# Altium schematic symbol library Integrated Circuits.SchLib: 178 symbols (part 1 of 3)
Pins are listed as number, name and electrical type; pins without a type are passive.

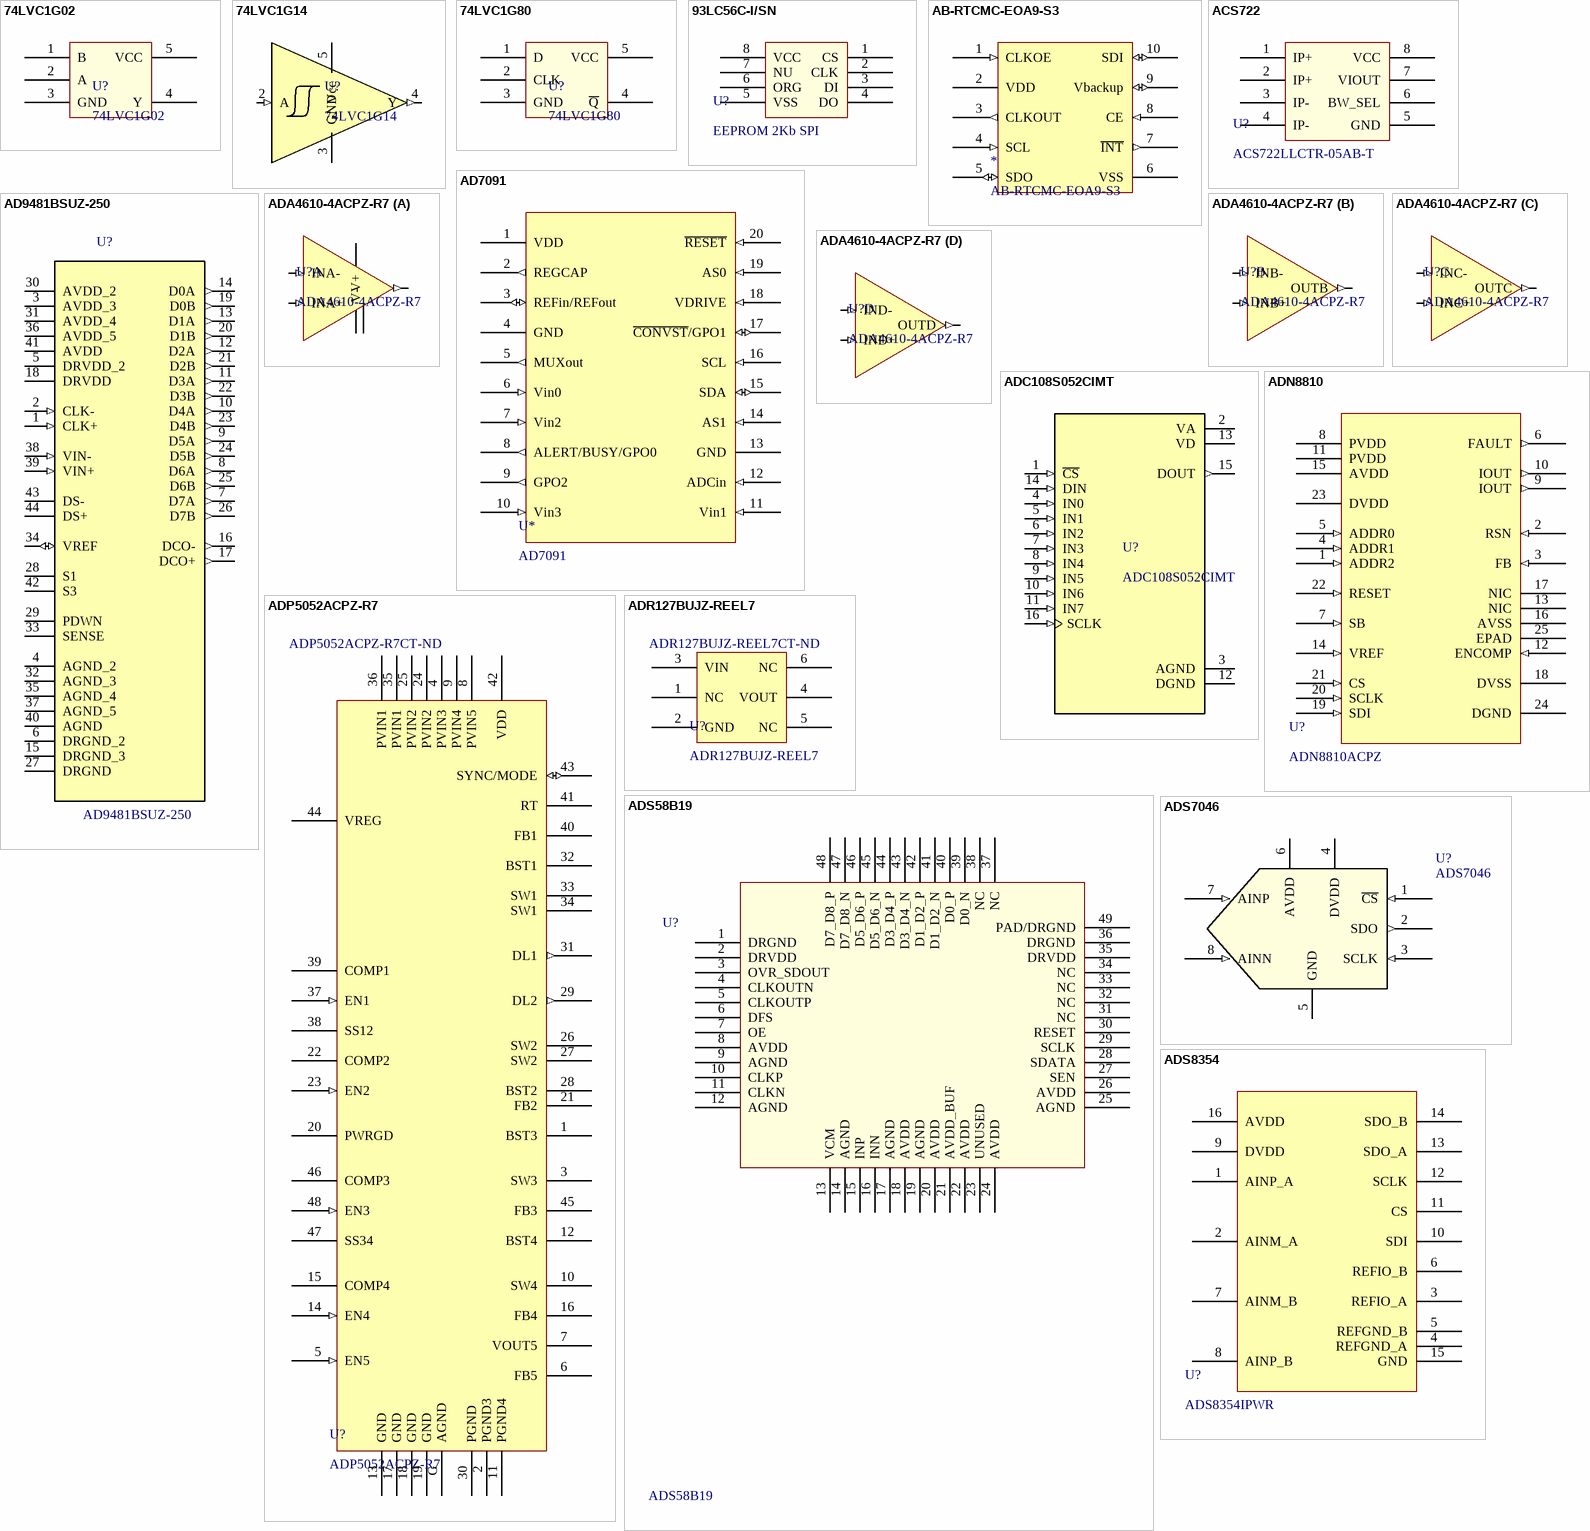
[diagram p0: symbols 74LVC1G02 to ADS8354]

## 74LVC1G02
designator U?
Single 2 input NOR Gate; Supplier 1: Digi-Key; Supplier 2: Mouser; Supplier 3: LCSC; Supplier Part Number 1: 1727-6062-1-ND; Supplier Part Number 2: 771-LVC1G02GW125; Supplier Part Number 3: C353856
footprint SOT353-1 (0.65mm Pitch 5 Pin)
pins: 1 B, 2 A, 3 GND, 4 Y, 5 VCC

## 74LVC1G14
designator U?
Schmitt trigger buffer, inverting; Supplier 1: Digi-Key; Supplier Part Number 1: 296-11607-1-ND
footprint SOT25 (SOT23, 5-Leads, Body 2.95x3.05mm, Pitch 0.95mm, IPC Medium Density)
pins: 2 A (in), 3 GND (power), 4 Y (out), 5 Vcc (power)

## 74LVC1G80
designator U?
Single D-type flip-flop; positive-edge trigger; Supplier 1: Digi-Key; Supplier 2: Mouser; Supplier 3: LCSC; Supplier Part Number 2: 771-LVC1G80GW125; Supplier Part Number 1: 1727-6081-1-ND; Supplier Part Number 3: C353857
footprint SOT353-1 (0.65mm Pitch 5 Pin)
pins: 1 D, 2 CLK, 3 GND, 4 ~{Q}, 5 VCC

## 93LC56C-I/SN
designator U?, comment EEPROM 2Kb SPI
EEPROM Memory IC 2Kb (256 x 8, 128 x 16) SPI 3MHz 8-SOIC; Supplier 1: Digi-Key; Supplier Part Number 1: 93LC56C-I/SN-ND
footprint SOIC127P600X175-8N (SOIC, 8-Leads, Body 4.90x3.90mm, Pitch 1.27mm, IPC Medium Density)
pins: 1 CS, 2 CLK, 3 DI, 4 DO, 5 VSS, 6 ORG, 7 NU, 8 VCC

## AB-RTCMC-EOA9-S3
designator *
IC RTC TEMP COMPENSATED W/ SPI; Supplier 1: Mouser; Supplier Part Number 1: 815-ABMC-327EOA9S3DB
footprint SON80P250X90-10N (SON, 10-Leads, Body 3.70x2.50mm, Pitch 0.80mm, IPC Medium Density)
pins: 1 CLKOE (in), 2 VDD (power), 3 CLKOUT (out), 4 SCL (in), 5 SDO (io), 6 VSS (power), 7 ~{INT} (out), 8 CE (in), 9 Vbackup (io), 10 SDI (io)

## ACS722
designator U?, comment ACS722LLCTR-05AB-T
Current Sensor 5A 1 Channel Hall Effect, Open Loop Bidirectional 8-SOIC (0.154", 3.90mm Width); Supplier 1: Digi-Key; Supplier Part Number 1: 620-1634-1-ND; Supplier 3: LCSC; Supplier Part Number 3: C116613
footprint SOIC127P600X175-8N (SOIC, 8-Leads, Body 4.90x3.90mm, Pitch 1.27mm, IPC Medium Density)
pins: 1 IP+, 2 IP+, 3 IP-, 4 IP-, 5 GND, 6 BW_SEL, 7 VIOUT, 8 VCC

## AD7091
designator U*
4-Channel 12-bit ADC, I2C; Supplier 1: Digi-Key; Supplier Part Number 1: AD7091R-5BCPZ-ND
footprint TSOP65P640X120-20N (TSOP, 20-Leads, Body 6.50x4.40mm, Pitch 0.65mm, IPC Medium Density)
pins: 1 VDD (power), 2 REGCAP (out), 3 REFin/REFout (io), 4 GND (power), 5 MUXout (out), 6 Vin0 (in), 7 Vin2 (in), 8 ALERT/BUSY/GPO0 (out), 9 GPO2 (out), 10 Vin3 (in), 11 Vin1 (in), 12 ADCin (in), 13 GND (power), 14 AS1 (in), 15 SDA (io), 16 SCL (in), 17 ~{CONVST}/GPO1 (io), 18 VDRIVE (in), 19 AS0 (in), 20 ~{RESET} (in)

## AD9481BSUZ-250
designator U?
Single ADC Pipelined 250Msps 8-bit Parallel/LVDS 44-Pin TQFP Tray; VENDOR: DigiKey; MANF: Analog Devices Inc.; VENDOR_PN: AD9481BSUZ-250-ND; MANF_PN: AD9481BSUZ-250
footprint QFP80P1200X1200X120-44N
pins: 1 CLK+ (in), 2 CLK- (in), 3 AVDD_3 (power), 4 AGND_2, 5 DRVDD_2 (power), 6 DRGND_2, 7 D7A (out), 8 D6A (out), 9 D5A (out), 10 D4A (out), 11 D3A (out), 12 D2A (out), 13 D1A (out), 14 D0A (out), 15 DRGND_3, 16 DCO- (out), 17 DCO+ (out), 18 DRVDD (power), 19 D0B (out), 20 D1B (out), 21 D2B (out), 22 D3B (out), 23 D4B (out), 24 D5B (out), 25 D6B (out), 26 D7B (out), 27 DRGND, 28 S1, 29 PDWN, 30 AVDD_2 (power), 31 AVDD_4 (power), 32 AGND_3, 33 SENSE, 34 VREF (io), 35 AGND_4, 36 AVDD_5 (power), 37 AGND_5, 38 VIN- (in), 39 VIN+ (in), 40 AGND, 41 AVDD (power), 42 S3, 43 DS-, 44 DS+

## ADA4610-4ACPZ-R7
designator U?
IC OPAMP JFET 4 CIRCUIT 16LFCSP; Supplier 1: Digi-Key; Supplier 2: Mouser; Supplier Part Number 1: ADA4610-4ACPZ-R7CT-ND; Supplier Part Number 2: 584-ADA4610-4ACPZ-R7; Supplier Part Number 3: C654151; Supplier 3: LCSC
footprint LFCSP16 4x4x0.75mm (16-Lead Lead Frame Chip Scale Package)
part A pins: 1 INA- (in), 2 INA+ (in), 3 V+ (power), 10 V- (power), 15 OUTA (out), 17 PAD (power)
part B pins: 4 INB+ (in), 5 INB- (in), 6 OUTB (out)
part C pins: 7 OUTC (out), 8 INC- (in), 9 INC+ (in)
part D pins: 11 IND+ (in), 12 IND- (in), 14 OUTD (out)

## ADC108S052CIMT
designator U?
10 Bit Analog to Digital Converter 8 Input 1 SAR 16-TSSOP; Supplier 1: Digi-Key; Supplier 2: Mouser; Supplier Part Number 1: ADC108S052CIMT/NOPB-ND; Supplier Part Number 2: 926-AD108S052CIMTNPB
footprint SOP65P640X120-16N
pins: 1 ~{CS} (in), 2 VA (power), 3 AGND (power), 4 IN0 (in), 5 IN1 (in), 6 IN2 (in), 7 IN3 (in), 8 IN4 (in), 9 IN5 (in), 10 IN6 (in), 11 IN7 (in), 12 DGND (power), 13 VD (power), 14 DIN (in), 15 DOUT (out), 16 SCLK (in)

## ADN8810
designator U?, comment ADN8810ACPZ
IC CURRENT SOURCE 12BIT 24LFCSP; Supplier 1: Digi-Key; Supplier Part Number 1: ADN8810ACPZ-ND
footprint CP-24-10 (QFN, 24-Leads, Body 4.00x4.00mm, Pitch 0.50mm, Thermal Pad 2.10x2.10mm, IPC High Density)
pins: 1 ADDR2 (in), 2 RSN (in), 3 FB (in), 4 ADDR1 (in), 5 ADDR0 (in), 6 FAULT (out), 7 SB (in), 8 PVDD (power), 9 IOUT (out), 10 IOUT (out), 11 PVDD (power), 12 ENCOMP (in), 13 NIC, 14 VREF (in), 15 AVDD (power), 16 AVSS, 17 NIC, 18 DVSS, 19 SDI (in), 20 SCLK (in), 21 CS (in), 22 RESET (in), 23 DVDD (power), 24 DGND, 25 EPAD

## ADP5052ACPZ-R7
designator U?  Supplier Part Number 1: ADP5052ACPZ-R7CT-ND
IC REG 5OUT BCK/LINEAR 48LFCSP; Manufacturer: Analog Devices Inc.; Supplier: Digikey; Supplier Part Number: ADP5052ACPZ-R7CT-ND; Manufacturer Part Number: ADP5052ACPZ-R7; Last Modified By: *; Last Modified Date: *; Supplier 1: Digi-Key
footprint QFN50P700X700X80_HS-49N (QFN, 48-Leads, Body 7.00x7.00mm, Pitch 0.50mm, Thermal Pad 5.60x5.60mm, IPC Medium Density)
pins: 1 BST3, 2 PGND3, 3 SW3, 4 PVIN3, 5 EN5 (in), 6 FB5, 7 VOUT5, 8 PVIN5, 9 PVIN4, 10 SW4, 11 PGND4, 12 BST4, 13 GND, 14 EN4 (in), 15 COMP4, 16 FB4, 17 GND, 18 GND, 19 GND, 20 PWRGD, 21 FB2, 22 COMP2, 23 EN2 (in), 24 PVIN2, 25 PVIN2, 26 SW2, 27 SW2, 28 BST2, 29 DL2 (out), 30 PGND, 31 DL1 (out), 32 BST1, 33 SW1, 34 SW1, 35 PVIN1, 36 PVIN1, 37 EN1 (in), 38 SS12, 39 COMP1, 40 FB1, 41 RT, 42 VDD, 43 SYNC/MODE (io), 44 VREG, 45 FB3, 46 COMP3, 47 SS34, 48 EN3 (in), G AGND

## ADR127BUJZ-REEL7
designator U?  Supplier Part Number 1: ADR127BUJZ-REEL7CT-ND
IC VREF SERIES 1.25V TSOT-6; Manufacturer: Analog Devices Inc.; Supplier: Digi-Key; Supplier Part Number: ADR127BUJZ-REEL7CT-ND; Manufacturer Part Number: ADR127BUJZ-REEL7; Last Modified By: *; Last Modified Date: *; Supplier 1: Digi-Key
footprint SOT95P280X90-6N (SOT23, 6-Leads, Body 2.90x2.80mm, Pitch 0.95mm, IPC Medium Density)
pins: 1 NC, 2 GND, 3 VIN, 4 VOUT, 5 NC, 6 NC

## ADS58B19
designator U?
Single ADC Pipelined 250Msps 9-bit Parallel/LVDS 48-Pin VQFN; Supplier 1: Digi-Key; Supplier 2: Mouser; Supplier Part Number 1: 296-28296-1-ND; Supplier Part Number 2: 595-ADS58B19IRGZT
footprint VQFN48 (VQFN, 48-Leads, 7.00x7.00mm, Pitch 0.50mm)
pins: 1 DRGND, 2 DRVDD, 3 OVR_SDOUT, 4 CLKOUTN, 5 CLKOUTP, 6 DFS, 7 OE, 8 AVDD, 9 AGND, 10 CLKP, 11 CLKN, 12 AGND, 13 VCM, 14 AGND, 15 INP, 16 INN, 17 AGND, 18 AVDD, 19 AGND, 20 AVDD, 21 AVDD_BUF, 22 AVDD, 23 UNUSED, 24 AVDD, 25 AGND, 26 AVDD, 27 SEN, 28 SDATA, 29 SCLK, 30 RESET, 31 NC, 32 NC, 33 NC, 34 NC, 35 DRVDD, 36 DRGND, 37 NC, 38 NC, 39 D0_N, 40 D0_P, 41 D1_D2_N, 42 D1_D2_P, 43 D3_D4_N, 44 D3_D4_P, 45 D5_D6_N, 46 D5_D6_P, 47 D7_D8_N, 48 D7_D8_P, 49 PAD/DRGND

## ADS7046
designator U?
12 Bit Analog to Digital Converter 1 Input 3MSPS SAR 8-X2QFN (1.5x1.5); Supplier 1: Digi-Key; Supplier 2: Mouser; Supplier Part Number 1: 296-48818-1-ND; Supplier Part Number 2: 595-ADS7046IRUGR
footprint X2QFN-8 (1.5x1.5mm ADS7046)
pins: 1 ~{CS} (in), 2 SDO (out), 3 SCLK (in), 4 DVDD (power), 5 GND (power), 6 AVDD (power), 7 AINP (in), 8 AINN (in)

## ADS8354
designator U?, comment ADS8354IPWR
DUAL CHANNEL 1MSPS SS ATOD; Supplier 1: Digi-Key; Supplier Part Number 1: 296-39873-1-ND
footprint PW (R-PDSO-G16)
pins: 1 AINP_A, 2 AINM_A, 3 REFIO_A, 4 REFGND_A, 5 REFGND_B, 6 REFIO_B, 7 AINM_B, 8 AINP_B, 9 DVDD, 10 SDI, 11 CS, 12 SCLK, 13 SDO_A, 14 SDO_B, 15 GND, 16 AVDD

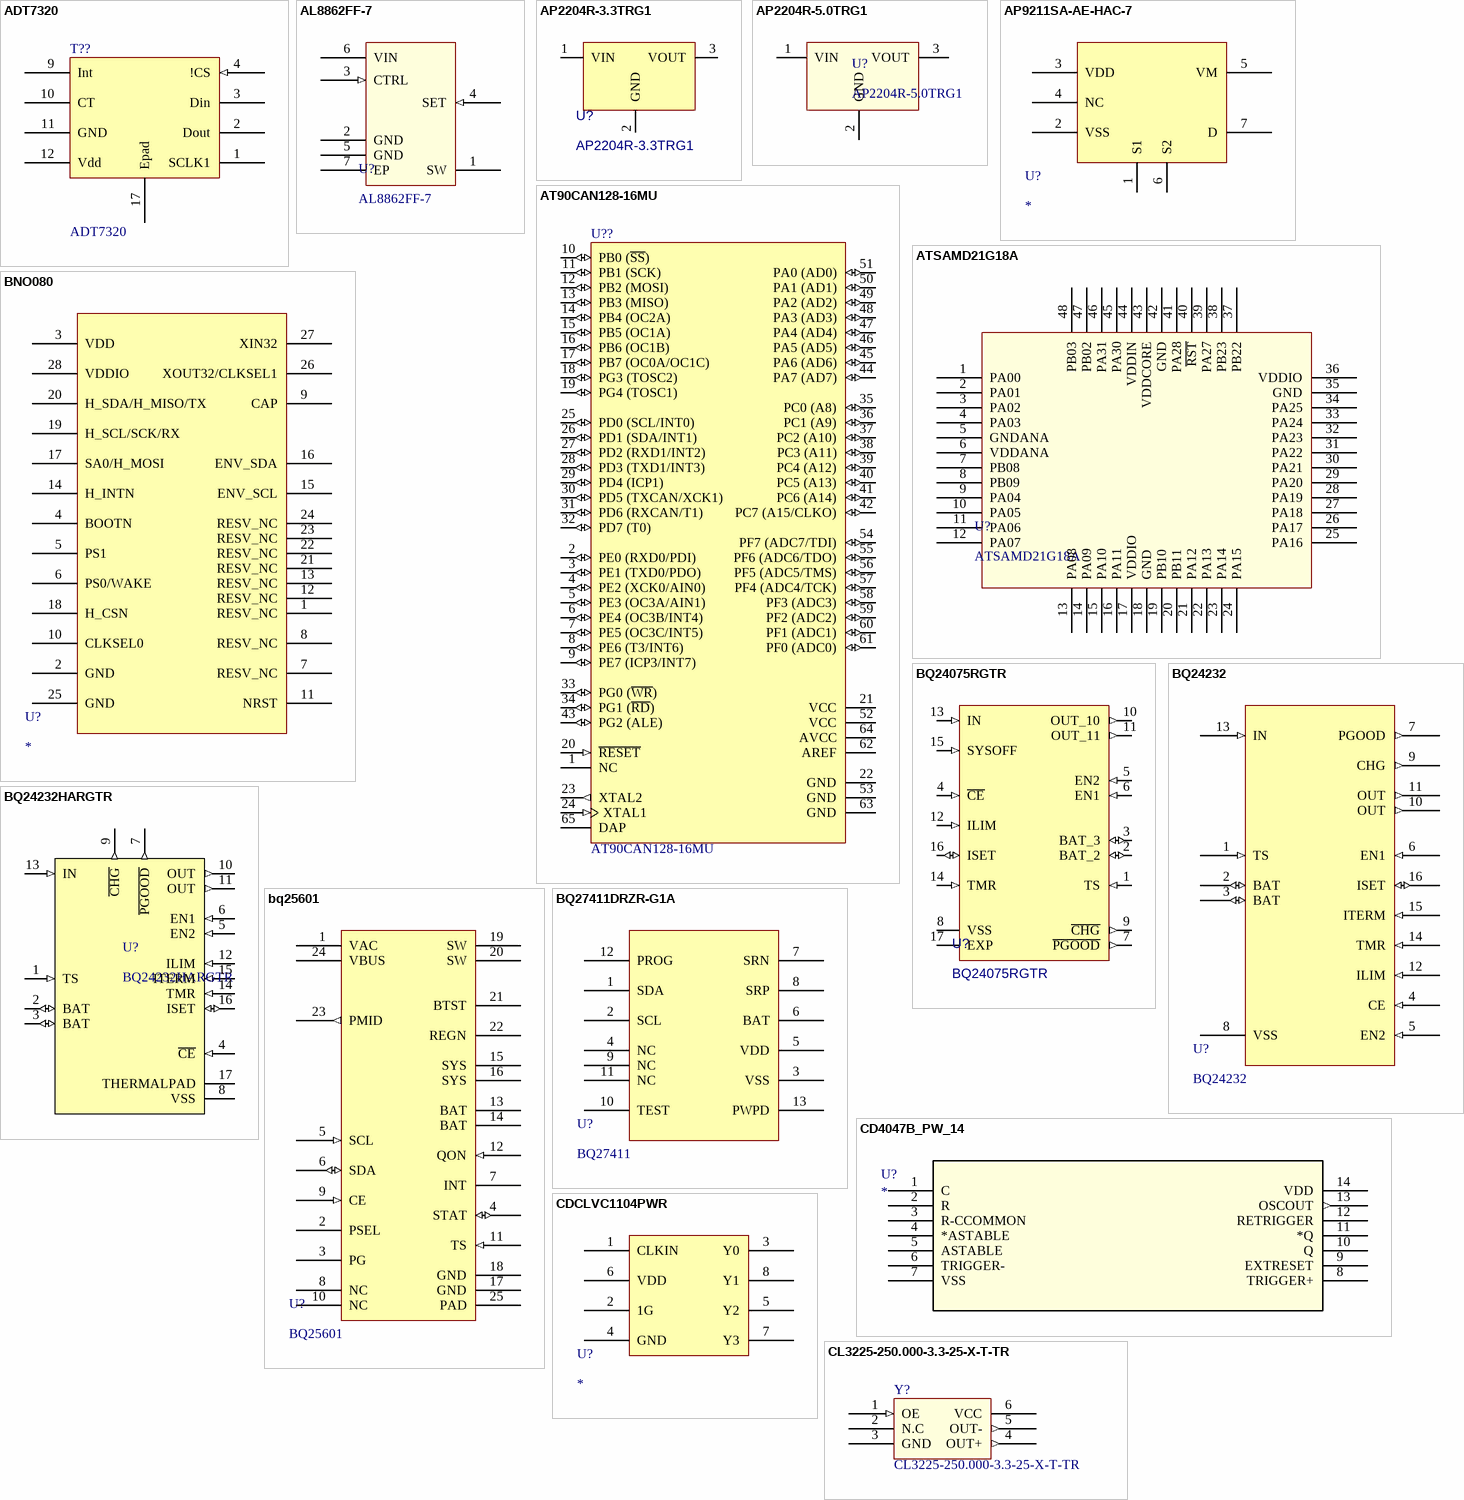
[diagram p1: symbols ADT7320 to CL3225-250.000-3.3-25-X-T-TR]

## ADT7320
designator T??
SPI 16 bit digital temp sensor; Supplier 1: Arrow; Supplier Part Number 1: 49674583S8738366N2771
footprint LFCSP16
pins: 1 SCLK1, 2 Dout, 3 Din, 4 !CS (in), 5 NC hidden, 6 NC hidden, 7 NC hidden, 8 NC hidden, 9 Int, 10 CT, 11 GND (power), 12 Vdd (power), 13 NC hidden, 14 NC hidden, 15 NC hidden, 16 NC hidden, 17 Epad

## AL8862FF-7
designator U?
LED Driver IC 1 Output DC DC Regulator Step-Down (Buck) Analog, PWM Dimming 1A 6-DFN (3x3); Supplier 1: Digi-Key; Supplier 2: Mouser; Supplier Part Number 1: 31-AL8862FF-7CT-ND; Supplier Part Number 2: 621-AL8862FF-7
footprint U-DFN3030-6 (Diodes Inc DFN3030 6 Pin EP)
pins: 1 SW, 2 GND (power), 3 CTRL (in), 4 SET (in), 5 GND (power), 6 VIN (power), 7 EP (power)

## AP2204R-3.3TRG1
designator U?
Fixed 24V 3.3V 150mA SOT-89(SOT-89-3) Low Dropout Regulators(LDO); Supplier 1: Digi-Key; Supplier 2: Mouser; Supplier 3: LCSC; Supplier Part Number 1: AP2204R-3.3TRG1DICT-ND; Supplier Part Number 2: 621-AP2204R-3.3TRG1; Supplier Part Number 3: C156303
footprint SOT-89 (SOT-89 for AP2204R)
pins: 1 VIN, 2 GND, 3 VOUT

## AP2204R-5.0TRG1
designator U?
Fixed 24V 5.0V 150mA SOT-89(SOT-89-3) Low Dropout Regulators(LDO); Supplier 1: Digi-Key; Supplier 2: Mouser; Supplier Part Number 1: AP2204R-5.0TRG1DICT-ND; Supplier 3: LCSC; Supplier Part Number 2: 621-AP2204R-5.0TRG1; Supplier Part Number 3: C156388
footprint SOT-89 (SOT-89 for AP2204R)
pins: 1 VIN, 2 GND, 3 VOUT

## AP9211SA-AE-HAC-7
designator U?
IC BATT PROTECTION LI-ION 6UDFN; Supplier 1: Digi-Key; Supplier Part Number 1: AP9211SA-AE-HAC-7DICT-ND
footprint U-DFN2030-6
pins: 1 S1, 2 VSS, 3 VDD, 4 NC, 5 VM, 6 S2, 7 D

## AT90CAN128-16MU
designator U??
8-bit Automotive AVR Microcontroller, 128KB Flash and CAN Controller, 53 GPIO pins, Automotive Grade (-40°to +125°C), 64-Pin VQFN; DatasheetVersion: revC, Apr-2008; PackageVersion: 2011; PackageReference: Z64-2; PackageDescription: 64-Pin Quad Flat No-Lead, 9 x 9 mm Body, 0.5 mm Pitch, 6 x 6 mm Exposed Pad; Code_JEDEC: MO-220VMMD-3; ComponentLink1Description: Manufacturer URL; ComponentLink1URL: http://www.atmel.com/; ComponentLink2Description: AT90CAN32/64/128 Datasheet; ComponentLink2URL: http://www.atmel.com/dyn/resources/prod_documents/doc7682.pdf; ComponentLink3Description: AT90CAN32/64/128 Summary; ComponentLink3URL: http://www.atmel.com/dyn/resources/prod_documents/7682S.pdf; Supplier 1: Digi-Key; Supplier Part Number 1: AT90CAN128-16MU-ND
footprint QFN64
pins: 1 NC, 2 PE0 (RXD0/PDI) (io), 3 PE1 (TXD0/PDO) (io), 4 PE2 (XCK0/AIN0) (io), 5 PE3 (OC3A/AIN1) (io), 6 PE4 (OC3B/INT4) (io), 7 PE5 (OC3C/INT5) (io), 8 PE6 (T3/INT6) (io), 9 PE7 (ICP3/INT7) (io), 10 PB0 (~{SS}) (io), 11 PB1 (SCK) (io), 12 PB2 (MOSI) (io), 13 PB3 (MISO) (io), 14 PB4 (OC2A) (io), 15 PB5 (OC1A) (io), 16 PB6 (OC1B) (io), 17 PB7 (OC0A/OC1C) (io), 18 PG3 (TOSC2) (io), 19 PG4 (TOSC1) (io), 20 ~{RESET} (in), 21 VCC (power), 22 GND (power), 23 XTAL2 (out), 24 XTAL1 (in), 25 PD0 (SCL/INT0) (io), 26 PD1 (SDA/INT1) (io), 27 PD2 (RXD1/INT2) (io), 28 PD3 (TXD1/INT3) (io), 29 PD4 (ICP1) (io), 30 PD5 (TXCAN/XCK1) (io), 31 PD6 (RXCAN/T1) (io), 32 PD7 (T0) (io), 33 PG0 (~{WR}) (io), 34 PG1 (~{RD}) (io), 35 PC0 (A8) (io), 36 PC1 (A9) (io), 37 PC2 (A10) (io), 38 PC3 (A11) (io), 39 PC4 (A12) (io), 40 PC5 (A13) (io), 41 PC6 (A14) (io), 42 PC7 (A15/CLKO) (io), 43 PG2 (ALE) (io), 44 PA7 (AD7) (io), 45 PA6 (AD6) (io), 46 PA5 (AD5) (io), 47 PA4 (AD4) (io), 48 PA3 (AD3) (io), 49 PA2 (AD2) (io), 50 PA1 (AD1) (io), 51 PA0 (AD0) (io), 52 VCC (power), 53 GND (power), 54 PF7 (ADC7/TDI) (io), 55 PF6 (ADC6/TDO) (io), 56 PF5 (ADC5/TMS) (io), 57 PF4 (ADC4/TCK) (io), 58 PF3 (ADC3) (io), 59 PF2 (ADC2) (io), 60 PF1 (ADC1) (io), 61 PF0 (ADC0) (io), 62 AREF (power), 63 GND (power), 64 AVCC (power), 65 DAP (power)

## ATSAMD21G18A
designator U?
ARM® Cortex®-M0+ series Microcontroller IC 32-Bit 48MHz 256KB (256K x 8) FLASH 48-TQFP (7x7); Supplier 1: Digi-Key; Supplier 2: Mouser; Supplier 3: LCSC; Supplier Part Number 1: ATSAMD21G18A-AU-ND; Supplier Part Number 2: 556-ATSAMD21G18A-AU; Supplier Part Number 3: C78624
footprint LQFP48 (TSQFP, 48-Leads, Body 7.00x8.00mm, Pitch 0.50mm, IPC Medium Density)
pins: 1 PA00, 2 PA01, 3 PA02, 4 PA03, 5 GNDANA, 6 VDDANA, 7 PB08, 8 PB09, 9 PA04, 10 PA05, 11 PA06, 12 PA07, 13 PA08, 14 PA09, 15 PA10, 16 PA11, 17 VDDIO, 18 GND, 19 PB10, 20 PB11, 21 PA12, 22 PA13, 23 PA14, 24 PA15, 25 PA16, 26 PA17, 27 PA18, 28 PA19, 29 PA20, 30 PA21, 31 PA22, 32 PA23, 33 PA24, 34 PA25, 35 GND, 36 VDDIO, 37 PB22, 38 PB23, 39 PA27, 40 ~{RST}, 41 PA28, 42 GND, 43 VDDCORE, 44 VDDIN, 45 PA30, 46 PA31, 47 PB02, 48 PB03

## BNO080
designator U?
IMU ACCEL/GYRO/MAG I2C 32BIT; Supplier 1: Digi-Key; Supplier Part Number 1: 1888-1000-1-ND
footprint PQFN50P520X380X180-28M (PQFN, 28-Leads, Body 5.20x3.80mm, Pitch 0.50mm, IPC Low Density)
pins: 1 RESV_NC, 2 GND, 3 VDD, 4 BOOTN, 5 PS1, 6 PS0/WAKE, 7 RESV_NC, 8 RESV_NC, 9 CAP, 10 CLKSEL0, 11 NRST, 12 RESV_NC, 13 RESV_NC, 14 H_INTN, 15 ENV_SCL, 16 ENV_SDA, 17 SA0/H_MOSI, 18 H_CSN, 19 H_SCL/SCK/RX, 20 H_SDA/H_MISO/TX, 21 RESV_NC, 22 RESV_NC, 23 RESV_NC, 24 RESV_NC, 25 GND, 26 XOUT32/CLKSEL1, 27 XIN32, 28 VDDIO

## BQ24075RGTR
designator U?
Standalone 1-cell 1.5-A linear charger, Power Path, 4.2-V VBAT and 5.5-V VOUT 16-VQFN -40 to 85; Supplier 1: Digikey; Supplier 2: Mouser; Supplier Part Number 1: 296-38874-1-ND; Supplier Part Number 2: 595-BQ24075RGTR
footprint QFN50P300X300X100-17N
pins: 1 TS (in), 2 BAT_2 (io), 3 BAT_3 (io), 4 ~{CE} (in), 5 EN2 (in), 6 EN1 (in), 7 ~{PGOOD} (out), 8 VSS (power), 9 ~{CHG} (out), 10 OUT_10 (out), 11 OUT_11 (out), 12 ILIM (in), 13 IN (in), 14 TMR (in), 15 SYSOFF (in), 16 ISET (io), 17 EXP (power)

## BQ24232
designator U?
IC LI-ION CHARGE PWR MGMT 16QFN; Supplier 1: Digi-Key; Supplier Part Number 1: 296-41207-1-ND
footprint RGT0016C (QFN, 16-Leads, Body 3.00x3.00mm, Pitch 0.50mm, Thermal Pad 1.68x1.68mm, IPC High Density)
pins: 1 TS (in), 2 BAT (io), 3 BAT (io), 4 CE (in), 5 EN2 (in), 6 EN1 (in), 7 PGOOD (out), 8 VSS, 9 CHG (out), 10 OUT (out), 11 OUT (out), 12 ILIM (in), 13 IN (in), 14 TMR (in), 15 ITERM (in), 16 ISET (io)

## BQ24232HARGTR
designator U?
USB Friendly 0.5A Li-ion charger with power-Path, 10.5V OVP 16-VQFN -5 to 125; MF: Texas Instruments; Package: VQFN-16 Texas Instruments; MP: BQ24232HARGTR; Supplier 1: Digi-Key; Supplier 2: Mouser; Supplier Part Number 1: 296-49554-1-ND; Supplier Part Number 2: 595-BQ24232HARGTR
footprint QFN50P300X300X100-17N
pins: 1 TS (in), 2 BAT (io), 3 BAT (io), 4 ~{CE} (in), 5 EN2 (in), 6 EN1 (in), 7 ~{PGOOD} (out), 8 VSS (power), 9 ~{CHG} (out), 10 OUT (out), 11 OUT (out), 12 ILIM (in), 13 IN (in), 14 TMR (in), 15 ITERM (in), 16 ISET (io), 17 THERMALPAD (power)

## bq25601
designator U?, comment BQ25601
I2C CONTROLLED SINGLE CELL 3-A B; Supplier 1: Digi-Key; Operating Temperature: -40°C ~ 85°C; Package / Case: 24-WFQFN Exposed Pad; Supplier Part Number 1: 296-47384-1-ND
footprint RTW (S-PWQFN-N24) (QFN, 24-Leads, Body 4.00x4.00mm, Pitch 0.50mm, Thermal Pad 2.70x2.70mm, IPC Medium Density)
pins: 1 VAC "Charge input voltage sense. This pin must be connected to VBUS pin.", 2 PSEL "Power source selection input. Set 500 mA input current limit by pulling this pin high and set 2.4A input current limit", 3 PG, 4 STAT (io), 5 SCL (in), 6 SDA (io), 7 INT "Open-drain interrupt Output. Connect the INT to a logic rail through 10-kΩ resistor. The INT pin sends an active", 8 NC, 9 CE (in) "Charge enable pin. When this pin is driven low, battery charging is enabled.", 10 NC, 11 TS (in) "Temperature qualification voltage input to support JEITA profile. Connect a negative temperature coefficient", 12 QON (in) "BATFET enable/reset control input. When BATFET is in ship mode, a logic low of tSHIPMODE duration turns on", 13 BAT "Battery connection point to the positive terminal of the battery pack. The internal BATFET and current sensing is", 14 BAT "Battery connection point to the positive terminal of the battery pack. The internal BATFET and current sensing is", 15 SYS "Converter output connection point. The internal current sensing network is connected between SYS and BAT. Connect a 20 μF capacitor close to the SYS pin.", 16 SYS "Converter output connection point. The internal current sensing network is connected between SYS and BAT. Connect a 20 μF capacitor close to the SYS pin.", 17 GND, 18 GND, 19 SW "Switching node output. Connected to output inductor. Connect the 0.047-μF bootstrap capacitor from SW to BTST.", 20 SW "Switching node output. Connected to output inductor. Connect the 0.047-μF bootstrap capacitor from SW to BTST.", 21 BTST "PWM high side driver positive supply. Internally, the BTST pin is connected to the cathode of the boost-strap", 22 REGN "LSFET driver and internal supply output. Internally, REGN is connected to the anode of the boost-strap diode.", 23 PMID (out) "Connected to the drain of the reverse blocking MOSFET (RBFET) and the drain of HSFET. Put 10 μF ceramic", 24 VBUS "Charger input. The internal n-channel reverse block MOSFET (RBFET) is connected between VBUS and PMID", 25 PAD "Thermal pad and ground reference. This pad is ground reference for the device and it is also the thermal pad used"

## BQ27411DRZR-G1A
designator U?, comment BQ27411
IC BATT FUEL GAUGE LICOO2 12SON; Supplier 1: Digi-Key; Supplier Part Number 1: 296-39935-1-ND
footprint DRZ (S-PDSO-N12) (SON, 12-Leads, Body 2.50x4.00mm, Pitch 0.40mm, Thermal Pad 2.45x1.95mm, IPC Medium Density)
pins: 1 SDA, 2 SCL, 3 VSS, 4 NC, 5 VDD, 6 BAT, 7 SRN, 8 SRP, 9 NC, 10 TEST, 11 NC, 12 PROG, 13 PWPD

## CD4047B_PW_14
designator U?
4047B Multivibrator; Manufacturer: Texas Instruments; GENERIC_PART_NUMBER: CD4047B; INDUSTRY_STD_PKG_TYPE: TSSOP; FAMILY_NAME: MONOSTABLE MULTIVIBRATOR; PIN_COUNT: 14; PACKAGE_DESIGNATOR: PW; Datasheet_URL: http://www.ti.com/lit/gpn/CD4047B; Value: Value; Type: Type; RefDes: RefDes
footprint TSSOP-14 (R-PDSO-G14) (TSSOP, 14-Leads, Body 5.00x4.40mm, Pitch 0.65mm, IPC Medium Density)
pins: 1 C, 2 R, 3 R-CCOMMON, 4 *ASTABLE, 5 ASTABLE, 6 TRIGGER-, 7 VSS (power), 8 TRIGGER+, 9 EXTRESET, 10 Q, 11 *Q, 12 RETRIGGER, 13 OSCOUT (out), 14 VDD (power)

## CDCLVC1104PWR
designator U?
IC CLK BUFFER 1:4 250MHZ 8TSSOP; Supplier 1: Digi-Key; Supplier Part Number 1: 296-27549-1-ND
footprint PW0008A (TSOP, 8-Leads, Body 3.07x4.40mm, Pitch 0.65mm, IPC Medium Density)
pins: 1 CLKIN, 2 1G, 3 Y0, 4 GND, 5 Y2, 6 VDD, 7 Y3, 8 Y1

## CL3225-250.000-3.3-25-X-T-TR
designator Y?
250MHz XO (Standard) LVDS Oscillator 3.3V Enable/Disable 6-SMD, No Lead; MFN: EPSON; Supplier 1: Digi-Key; Supplier Part Number 1: 2151-CL3225-250.000-3.3-25-X-T-TRCT-ND
footprint Raltron CL3225 (Raltron CL3225 XTAL)
pins: 1 OE (in), 2 N.C, 3 GND, 4 OUT+ (out), 5 OUT- (out), 6 VCC

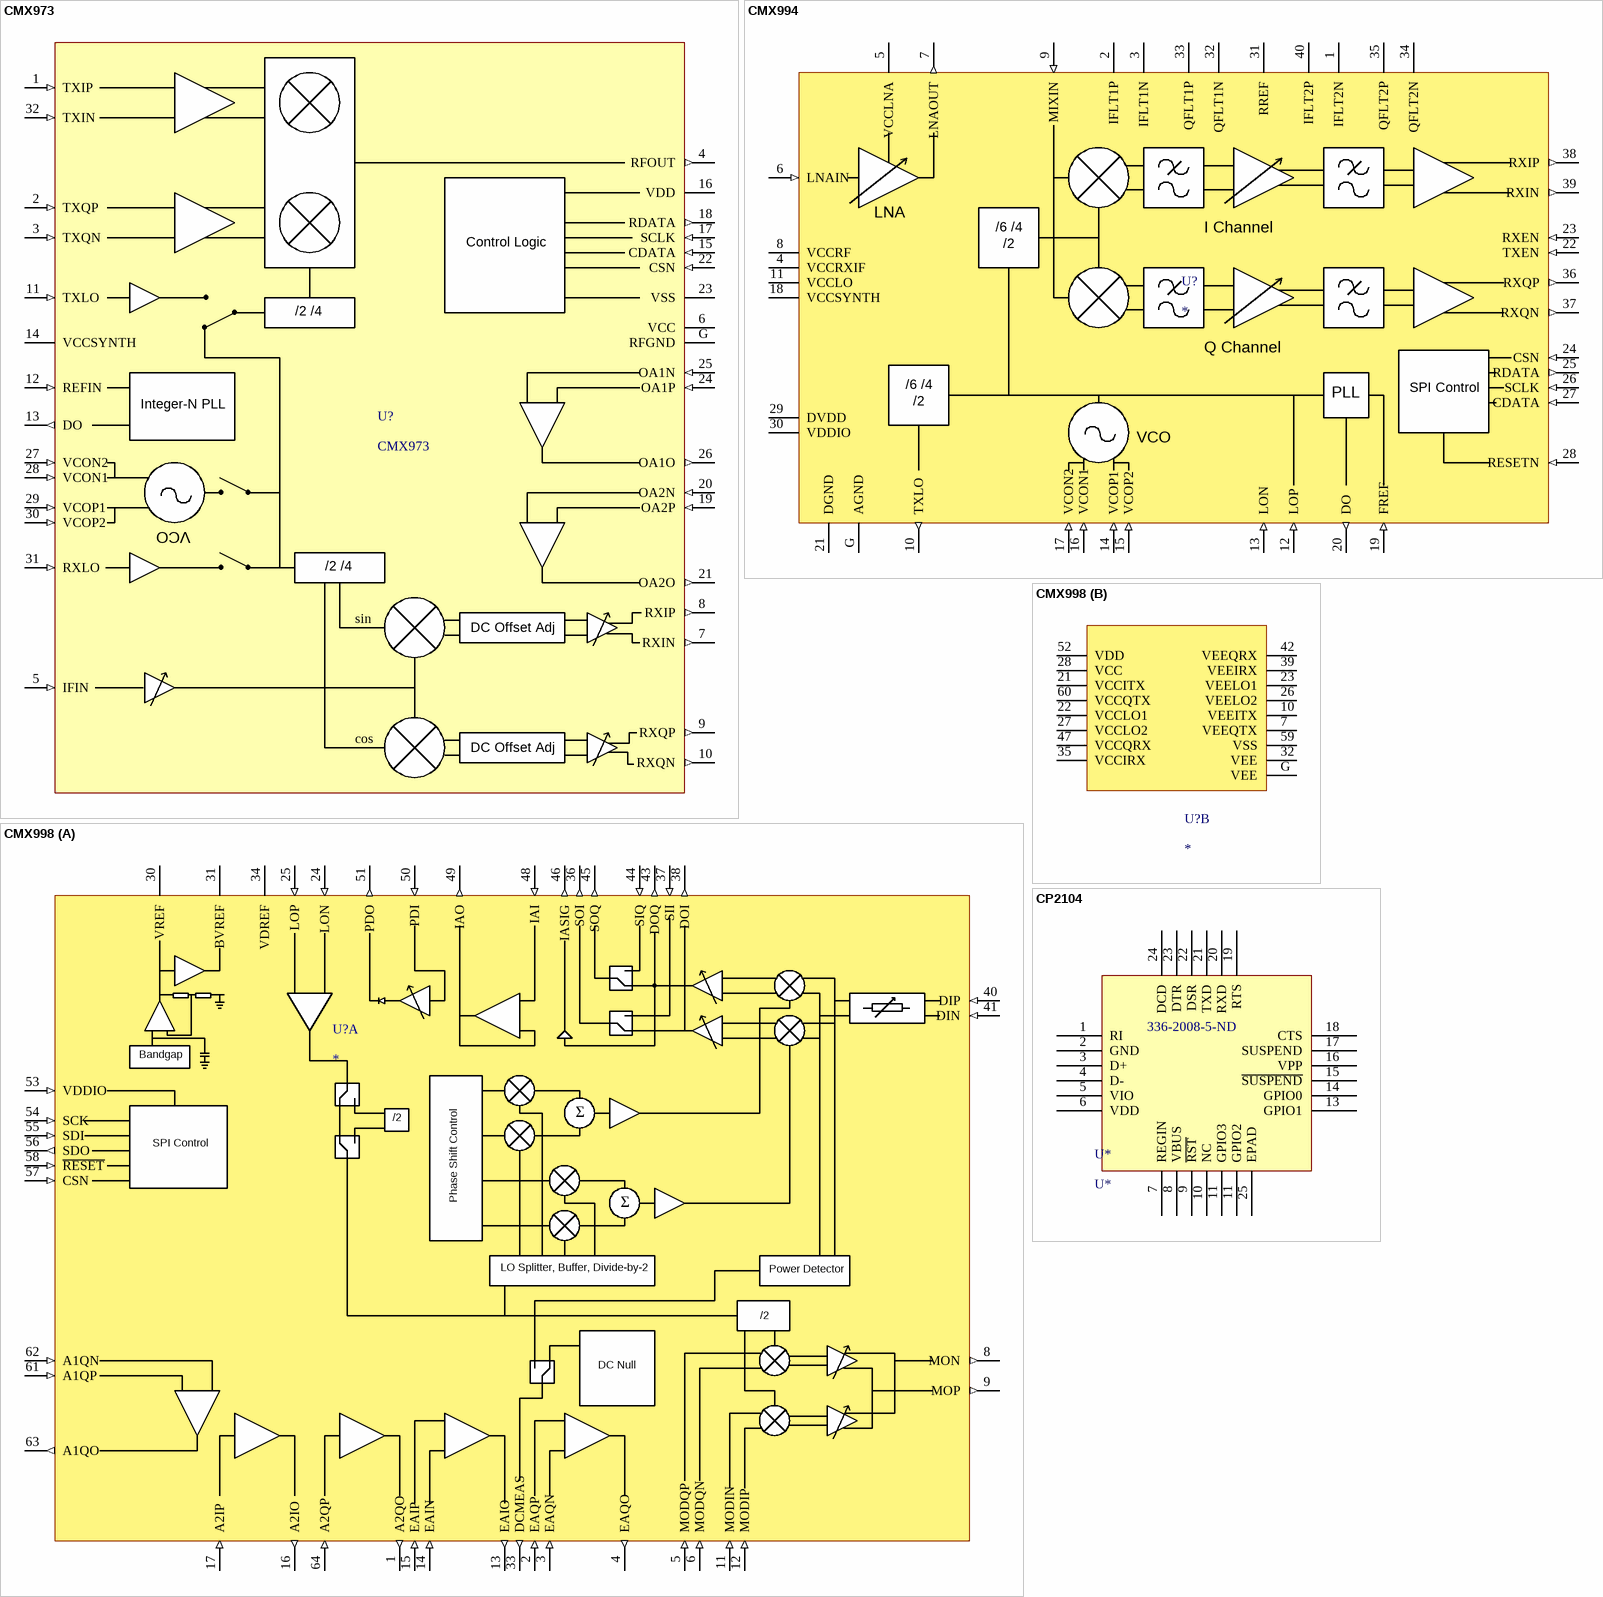
[diagram p2: symbols CMX973 to CP2104]

## CMX973
designator U?
Quadrature transceiver, 20-300 MHz RX, 20-1000 MHz TX, incl. PLL, VCO; Manufacturer: CML Microcircuits; Manufacturer Part #: CMX973
footprint QFN50P500X500X100_HS-33M (QFN, 32-Leads, Body 5.00x5.00mm, Pitch 0.50mm, Thermal Pad 3.50x3.50mm, IPC Low Density)
pins: 1 TXIP (in), 2 TXQP (in), 3 TXQN (in), 4 RFOUT (out), 5 IFIN (in), 6 VCC (power), 7 RXIN (out), 8 RXIP (out), 9 RXQP (out), 10 RXQN (out), 11 TXLO (in), 12 REFIN (in), 13 DO (out), 14 VCCSYNTH (power), 15 CDATA (in), 16 VDD (power), 17 SCLK (in), 18 RDATA (out), 19 OA2P (in), 20 OA2N (in), 21 OA2O (out), 22 CSN (in), 23 VSS (power), 24 OA1P (in), 25 OA1N (in), 26 OA1O (out), 27 VCON2 (in), 28 VCON1 (in), 29 VCOP1 (in), 30 VCOP2 (in), 31 RXLO (in), 32 TXIN (in), G RFGND (power)
text: Control Logic; /2 /4; Integer-N PLL; VCO; sin; DC Offset Adj; cos

## CMX994
designator U?
Direct-conversion quadrature receiver, 100-940 MHz, incl. LNA, baseband filtering, PLL, VCO
footprint QFN50P600X600X100_HS-41N (QFN, 40-Leads, Body 6.00x6.00mm, Pitch 0.50mm, Thermal Pad 4.15x4.15mm, IPC Medium Density)
pins: 1 IFLT2N, 2 IFLT1P, 3 IFLT1N, 4 VCCRXIF (power), 5 VCCLNA (power), 6 LNAIN (in), 7 LNAOUT (out), 8 VCCRF (power), 9 MIXIN (in), 10 TXLO (out), 11 VCCLO (power), 12 LOP (in), 13 LON (in), 14 VCOP1 (in), 15 VCOP2 (in), 16 VCON1 (in), 17 VCON2 (in), 18 VCCSYNTH (power), 19 FREF (in), 20 DO (out), 21 DGND (power), 22 TXEN (in), 23 RXEN (in), 24 CSN (in), 25 RDATA (out), 26 SCLK (in), 27 CDATA (in), 28 RESETN (in), 29 DVDD (power), 30 VDDIO (power), 31 RREF, 32 QFLT1N, 33 QFLT1P, 34 QFLT2N, 35 QFLT2P, 36 RXQP (out), 37 RXQN (out), 38 RXIP (out), 39 RXIN (out), 40 IFLT2P, G AGND (power)
text: LNA; /6 /4; I Channel; /2; Q Channel; SPI Control; PLL; VCO

## CMX998
designator U?
Quadrature upconverter with cartesian loop predistortion power amplifier linearizer.
footprint QFN50P900X900X100_HS-65N (QFN, 64-Leads, Body 9.00x9.00mm, Pitch 0.50mm, Thermal Pad 7.40x7.40mm, IPC Medium Density)
part A pins: 1 A2QO (out), 2 EAQP (in), 3 EAQN (in), 4 EAQO (out), 5 MODQP (in), 6 MODQN (in), 8 MON (out), 9 MOP (out), 11 MODIN (in), 12 MODIP (in), 13 EAIO (out), 14 EAIN (in), 15 EAIP (in), 16 A2IO (out), 17 A2IP (in), 24 LON (in), 25 LOP (in), 30 VREF, 31 BVREF, 33 DCMEAS (out), 34 VDREF, 36 SOI (out), 37 SII (in), 38 DOI (out), 40 DIP (in), 41 DIN (in), 43 DOQ (out), 44 SIQ (in), 45 SOQ (out), 46 IASIG (out), 48 IAI (in), 49 IAO (out), 50 PDI (in), 51 PDO (out), 53 VDDIO (in), 54 SCK (in), 55 SDI (in), 56 SDO (out), 57 CSN (in), 58 ~{RESET} (in), 61 A1QP (in), 62 A1QN (in), 63 A1QO (out), 64 A2QP (in)
part B pins: 7 VEEQTX (power), 10 VEEITX (power), 21 VCCITX (power), 22 VCCLO1 (power), 23 VEELO1 (power), 26 VEELO2 (power), 27 VCCLO2 (power), 28 VCC (power), 32 VEE (power), 35 VCCIRX (power), 39 VEEIRX (power), 42 VEEQRX (power), 47 VCCQRX (power), 52 VDD (power), 59 VSS (power), 60 VCCQTX (power), G VEE (power)
part A text: Bandgap; Σ; /2; SPI Control; Phase Shift Control; LO Splitter, Buffer, Divide-by-2; Power Detector; DC Null

## CP2104
designator U*, comment U*  Supplier Part Number 1: 336-2008-5-ND
IC SGL USB-TO-UART BRIDGE 24QFN; Supplier 1: Digi-Key
footprint QFN50P400X400X80_HS-25N (QFN, 24-Leads, Body 4.00x4.00mm, Pitch 0.50mm, Thermal Pad 2.68x2.68mm, IPC Medium Density)
pins: 1 RI, 2 GND, 3 D+, 4 D-, 5 VIO, 6 VDD, 7 REGIN, 8 VBUS, 9 ~{RST}, 10 NC, 11 GPIO3, 11 GPIO2, 13 GPIO1, 14 GPIO0, 15 ~{SUSPEND}, 16 VPP, 17 SUSPEND, 18 CTS, 19 RTS, 20 RXD, 21 TXD, 22 DSR, 23 DTR, 24 DCD, 25 EPAD

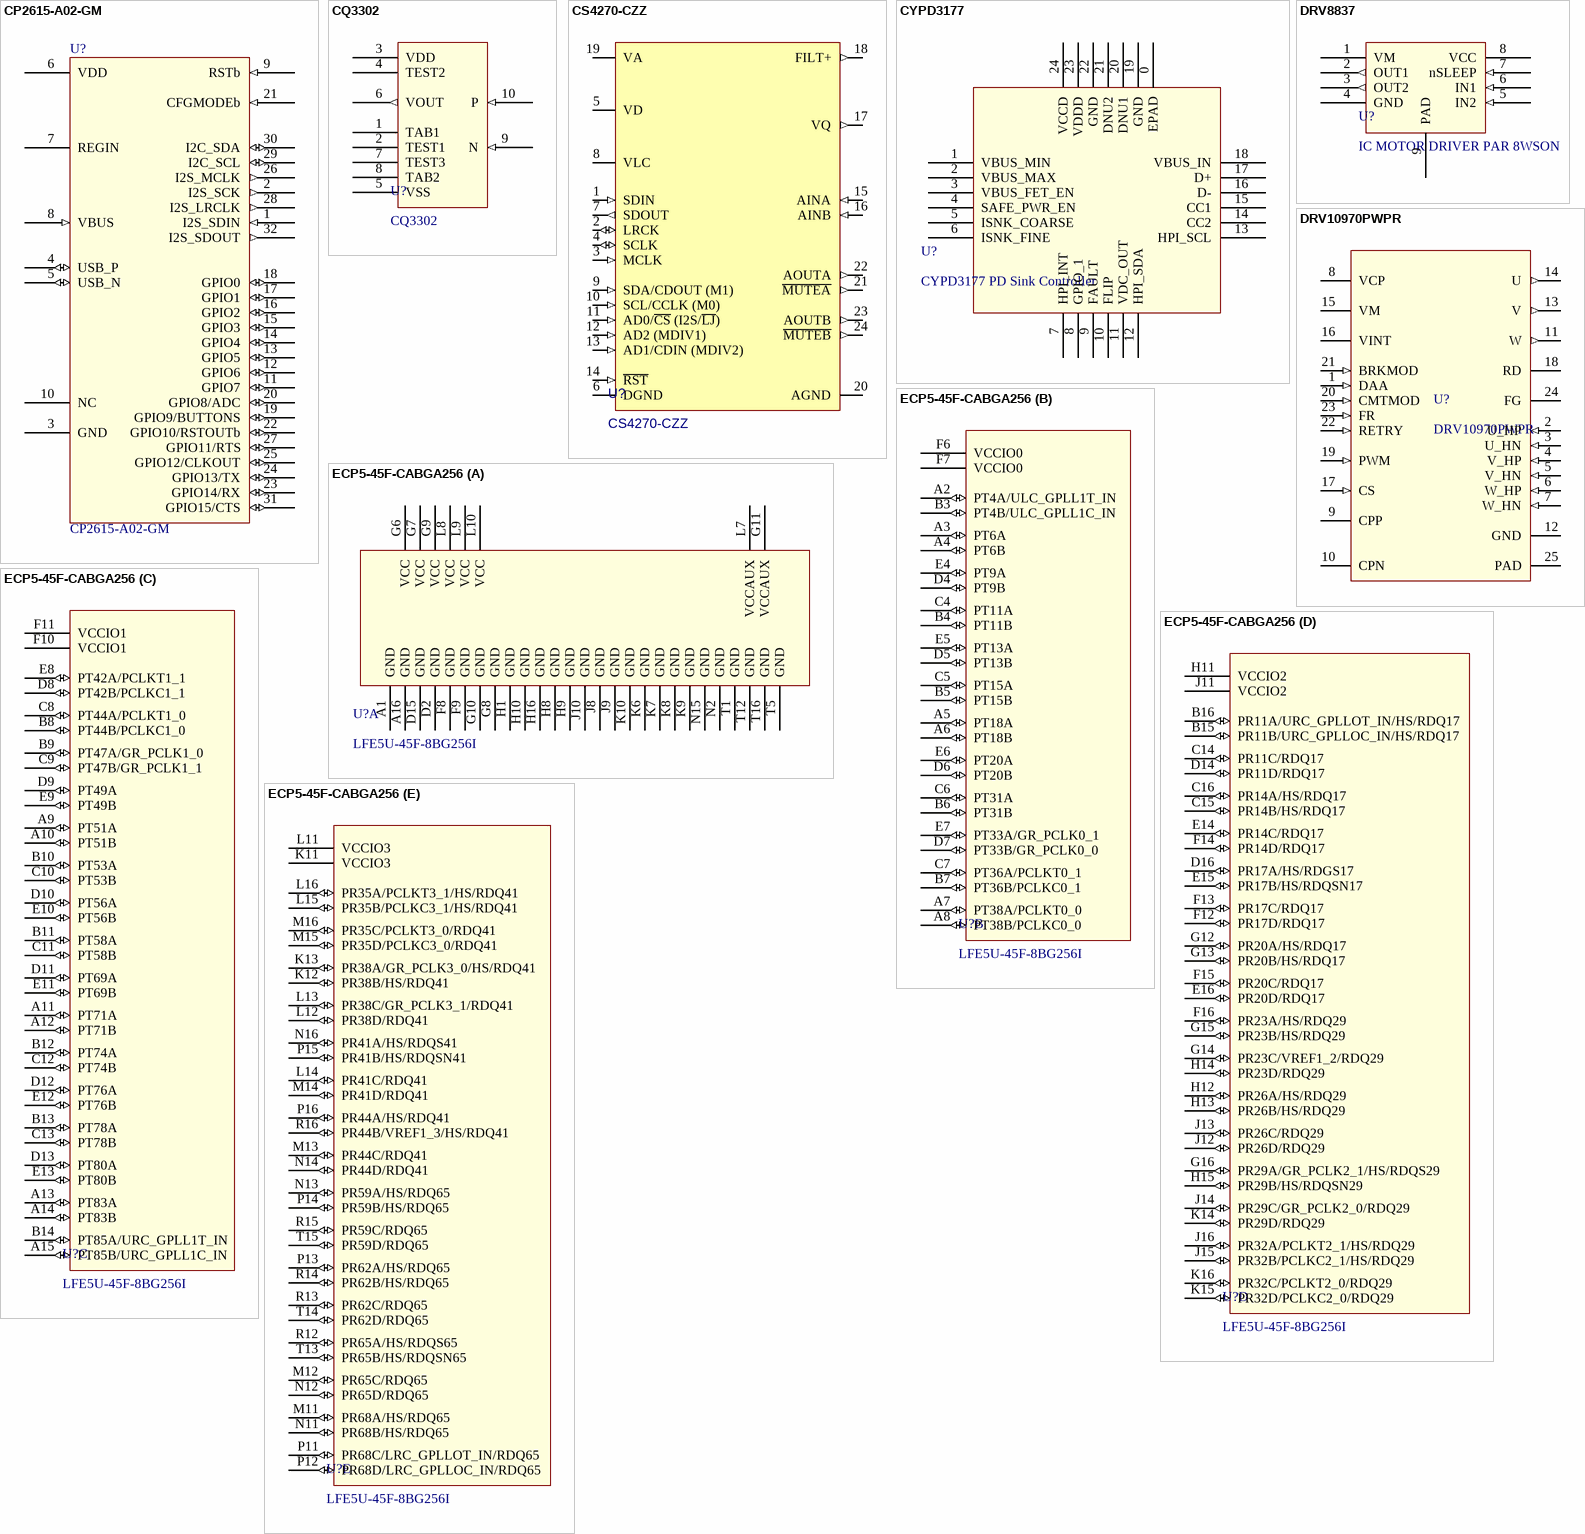
[diagram p3: symbols CP2615-A02-GM to ECP5-45F-CABGA256]

## CP2615-A02-GM
designator U?
USB Bridge, USB to I²S USB 2.0 I²C, I²S, UART Interface 32-QFN (5x5); Supplier 1: Digi-Key; Supplier 2: Mouser; Supplier Part Number 1: 336-4719-ND; Supplier Part Number 2: 634-CP2615-A02-GM
footprint QFN50P500X500X85-33N (QFN, 32-Leads, Body 5x5mm (max), Pitch 0.50mm, IPC Medium Density)
pins: 1 I2S_SDIN (in), 2 I2S_SCK (out), 3 GND (power), 4 USB_P (io), 5 USB_N (io), 6 VDD (power), 7 REGIN (power), 8 VBUS (in), 9 RSTb (in), 10 NC, 11 GPIO7 (io), 12 GPIO6 (io), 13 GPIO5 (io), 14 GPIO4 (io), 15 GPIO3 (io), 16 GPIO2 (io), 17 GPIO1 (io), 18 GPIO0 (io), 19 GPIO9/BUTTONS (io), 20 GPIO8/ADC (io), 21 CFGMODEb (in), 22 GPIO10/RSTOUTb (io), 23 GPIO14/RX (io), 24 GPIO13/TX (io), 25 GPIO12/CLKOUT (io), 26 I2S_MCLK (out), 27 GPIO11/RTS (io), 28 I2S_LRCLK (out), 29 I2C_SCL (io), 30 I2C_SDA (io), 31 GPIO15/CTS (io), 32 I2S_SDOUT (out)

## CQ3302
designator U?
Current Sensor 21A Channel Hall Effect, Open Loop Bidirectional 24-LSSOP (0.220", 5.60mm Width), 10 Leads; Supplier 1: Digi-Key; Supplier Part Number 1: 974-1088-1-ND; Supplier 3: LCSC; Supplier Part Number 3: C133176
footprint 24-LSSOP CQ3302 Specific (24-LSSOP, 10-Leads, Body 7.90x5.60mm, Pitch 0.65mm)
pins: 1 TAB1 (power), 2 TEST1 (power), 3 VDD (power), 4 TEST2 (power), 5 VSS (power), 6 VOUT (out), 7 TEST3 (power), 8 TAB2 (power), 9 N (in), 10 P (in)

## CS4270-CZZ
designator U?
IC CODEC 24BIT 105DB 24TSSOP; Supplier 1: Digi-Key; Supplier 2: Mouser; Supplier Part Number 1: 598-1040-5-ND; Supplier Part Number 2: 777-CS4270-CZZ
footprint CIR-TSSOP-24
footprint CIR-TSSOP-24-L
pins: 1 SDIN (in), 2 LRCK (io), 3 MCLK (in), 4 SCLK (io), 5 VD (power), 6 DGND (power), 7 SDOUT (out), 8 VLC (power), 9 SDA/CDOUT (M1) (in), 10 SCL/CCLK (M0) (in), 11 AD0/~{CS} (I2S/~{LJ}) (in), 12 AD2 (MDIV1) (in), 13 AD1/CDIN (MDIV2) (in), 14 ~{RST} (in), 15 AINA (in), 16 AINB (in), 17 VQ (out), 18 FILT+ (out), 19 VA (power), 20 AGND (power), 21 ~{MUTEA} (out), 22 AOUTA (out), 23 AOUTB (out), 24 ~{MUTEB} (out)

## CYPD3177
designator U?, comment CYPD3177 PD Sink Controller
IC USB TYPE-C PD PORT CONTROL 24QFN; Supplier 1: Digi-Key; Supplier 2: Mouser; Supplier Part Number 1: 428-4652-ND; Supplier Part Number 2: 727-CYPD3177-24LQXQ
footprint QFN24 - 4X4MM - PITCH 0.5MM - EXPOSEDPAD (QFN24 - 4X4mm - pitch 0.5mm - ExposedPAD)
pins: 0 EPAD, 1 VBUS_MIN, 2 VBUS_MAX, 3 VBUS_FET_EN, 4 SAFE_PWR_EN, 5 ISNK_COARSE, 6 ISNK_FINE, 7 HPI_INT, 8 GPIO_1, 9 FAULT, 10 FLIP, 11 VDC_OUT, 12 HPI_SDA, 13 HPI_SCL, 14 CC2, 15 CC1, 16 D-, 17 D+, 18 VBUS_IN, 19 GND, 20 DNU1, 21 DNU2, 22 GND, 23 VDDD, 24 VCCD

## DRV8837
designator U?, comment IC MOTOR DRIVER PAR 8WSON
Motor Driver NMOS PWM 8-WSON (2x2); Supplier 1: Digi-Key; Supplier Part Number 1: 296-34806-1-ND
footprint WSON 8 2x2 (DRV8837)
pins: 1 VM (power), 2 OUT1 (out), 3 OUT2 (out), 4 GND (power), 5 IN2 (in), 6 IN1 (in), 7 nSLEEP (in), 8 VCC (power), 9 PAD (power)

## DRV10970PWPR
designator U?
Motor Driver Power MOSFET PWM 24-HTSSOP; Vendor: Texas Instruments; Built_By: Texas_Instrument_Team; Manufacturer_Part_Number: DRV10970PWPR; Copyright: Copyright (C) 2018 Accelerated Designs. All rights reserved; RefDes: RefDes; Type: DEV; Value: Value; Supplier 1: Digi-Key; Supplier Part Number 1: 296-44066-1-ND
footprint PWP0024C_N (24HTSSOP w/ power pad)
pins: 1 DAA (in), 2 U_HP (in), 3 U_HN (in), 4 V_HP (in), 5 V_HN (in), 6 W_HP (in), 7 W_HN (in), 8 VCP, 9 CPP, 10 CPN, 11 W (out), 12 GND (power), 13 V (out), 14 U (out), 15 VM (power), 16 VINT (power), 17 CS (in), 18 RD (oc), 19 PWM (in), 20 CMTMOD (in), 21 BRKMOD (in), 22 RETRY (in), 23 FR (in), 24 FG (oc), 25 PAD (power)

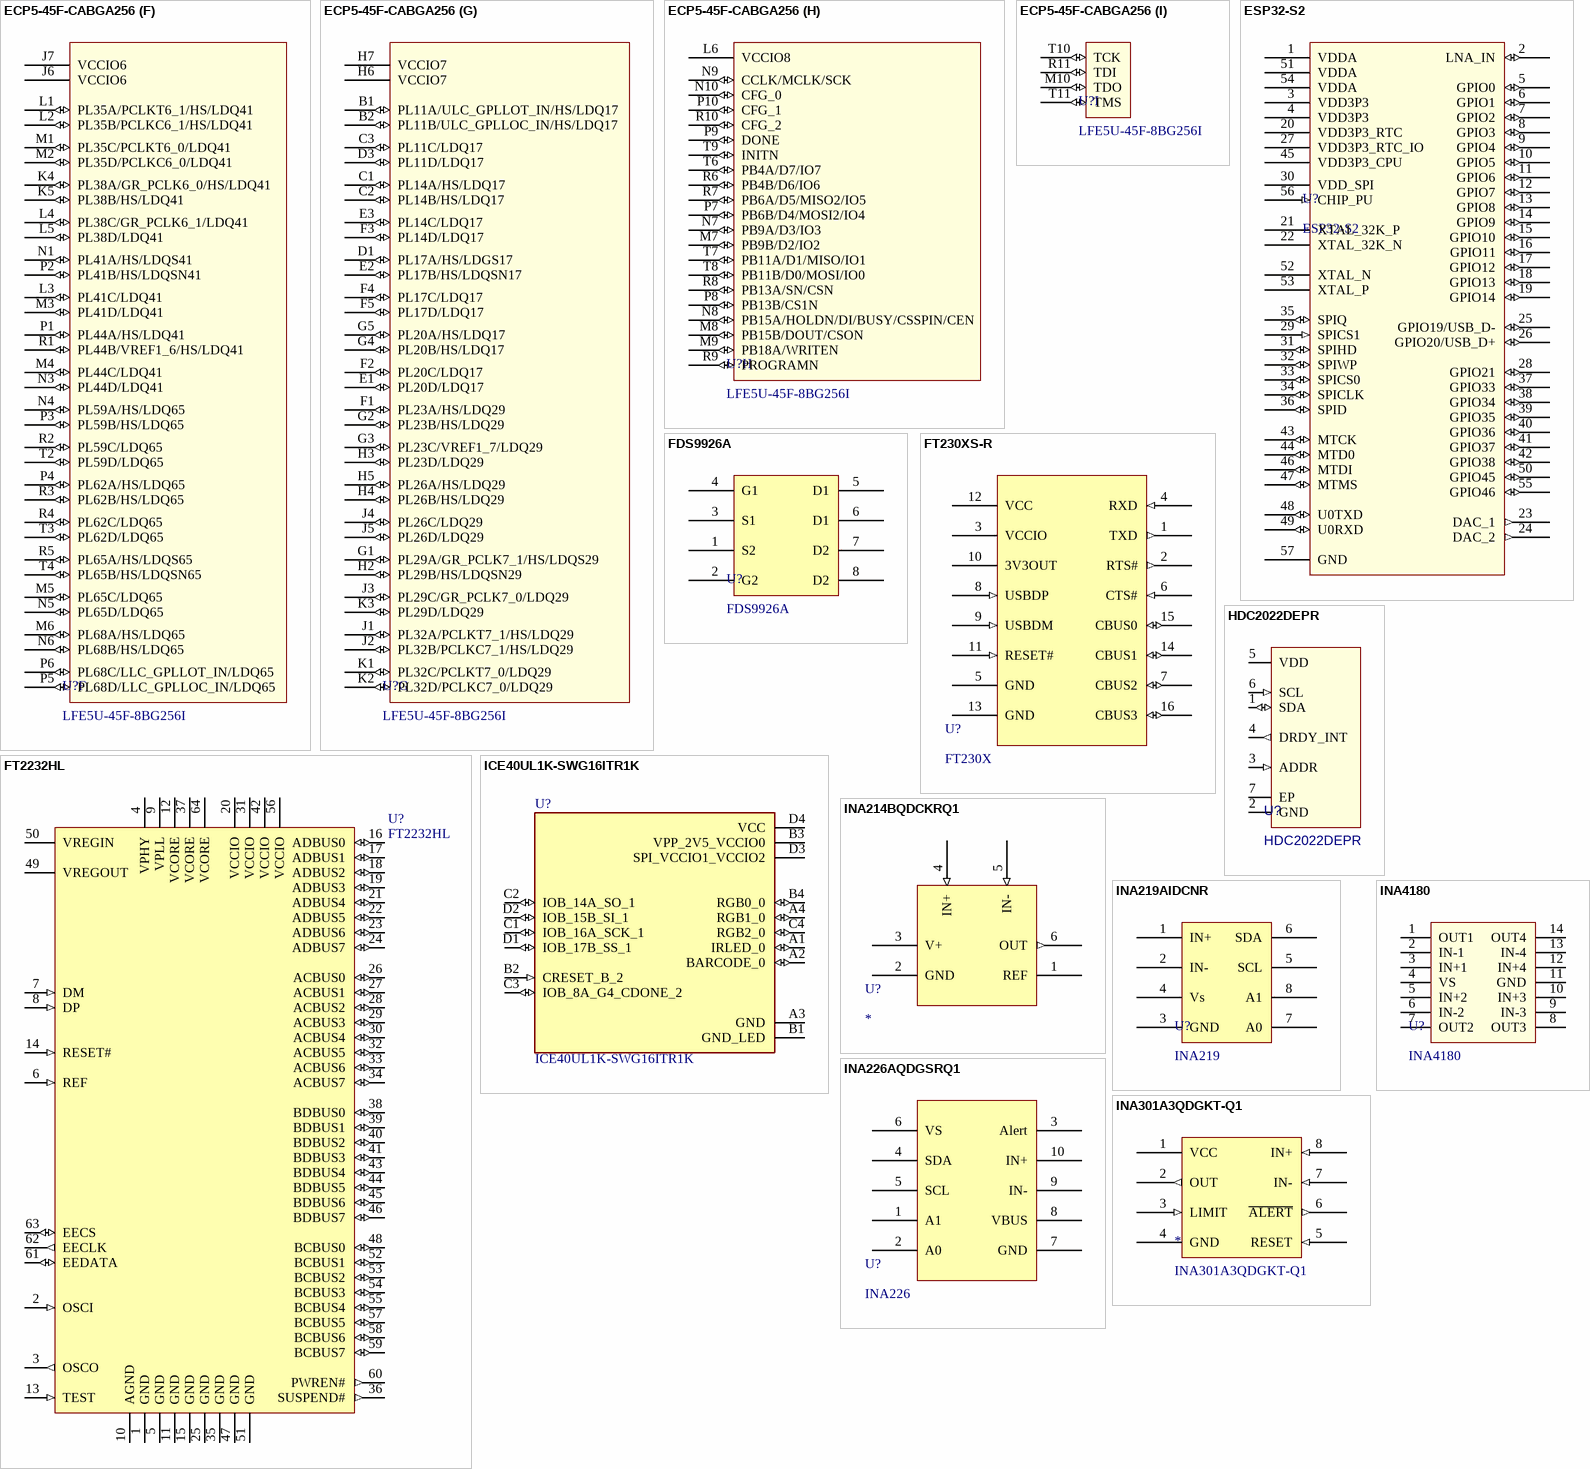
[diagram p4: symbols ECP5-45F-CABGA256 to INA4180]

## ECP5-45F-CABGA256
designator U?, comment LFE5U-45F-8BG256I
Lattice ECP5 45k LUTs / IC FPGA 197 I/O 256CABGA; Supplier 1: Digi-Key; Supplier 2: Mouser; Supplier Part Number 1: 220-2201-ND; Supplier Part Number 2: 842-LFE5U45F8BG256I
footprint caBGA256 (BGA, 256-Leads, Body 14.00x14.00mmx1.70mm, Pitch 0.80mm)
part A pins: A1 GND (power), A16 GND (power), D2 GND (power), D15 GND (power), F8 GND (power), F9 GND (power), G6 VCC (power), G7 VCC (power), G8 GND (power), G9 VCC (power), G10 GND (power), G11 VCCAUX (power), H1 GND (power), H8 GND (power), H9 GND (power), H10 GND (power), H16 GND (power), J8 GND (power), J9 GND (power), J10 GND (power), K6 GND (power), K7 GND (power), K8 GND (power), K9 GND (power), K10 GND (power), L7 VCCAUX (power), L8 VCC (power), L9 VCC (power), L10 VCC (power), N2 GND (power), N15 GND (power), T1 GND (power), T5 GND (power), T12 GND (power), T16 GND (power)
part B pins: A2 PT4A/ULC_GPLL1T_IN (io), A3 PT6A (io), A4 PT6B (io), A5 PT18A (io), A6 PT18B (io), A7 PT38A/PCLKT0_0 (io), A8 PT38B/PCLKC0_0 (io), B3 PT4B/ULC_GPLL1C_IN (io), B4 PT11B (io), B5 PT15B (io), B6 PT31B (io), B7 PT36B/PCLKC0_1 (io), C4 PT11A (io), C5 PT15A (io), C6 PT31A (io), C7 PT36A/PCLKT0_1 (io), D4 PT9B (io), D5 PT13B (io), D6 PT20B (io), D7 PT33B/GR_PCLK0_0 (io), E4 PT9A (io), E5 PT13A (io), E6 PT20A (io), E7 PT33A/GR_PCLK0_1 (io), F6 VCCIO0 (power), F7 VCCIO0 (power)
part C pins: A9 PT51A (io), A10 PT51B (io), A11 PT71A (io), A12 PT71B (io), A13 PT83A (io), A14 PT83B (io), A15 PT85B/URC_GPLL1C_IN (io), B8 PT44B/PCLKC1_0 (io), B9 PT47A/GR_PCLK1_0 (io), B10 PT53A (io), B11 PT58A (io), B12 PT74A (io), B13 PT78A (io), B14 PT85A/URC_GPLL1T_IN (io), C8 PT44A/PCLKT1_0 (io), C9 PT47B/GR_PCLK1_1 (io), C10 PT53B (io), C11 PT58B (io), C12 PT74B (io), C13 PT78B (io), D8 PT42B/PCLKC1_1 (io), D9 PT49A (io), D10 PT56A (io), D11 PT69A (io), D12 PT76A (io), D13 PT80A (io), E8 PT42A/PCLKT1_1 (io), E9 PT49B (io), E10 PT56B (io), E11 PT69B (io), E12 PT76B (io), E13 PT80B (io), F10 VCCIO1 (power), F11 VCCIO1 (power)
part D pins: B15 PR11B/URC_GPLLOC_IN/HS/RDQ17 (io), B16 PR11A/URC_GPLLOT_IN/HS/RDQ17 (io), C14 PR11C/RDQ17 (io), C15 PR14B/HS/RDQ17 (io), C16 PR14A/HS/RDQ17 (io), D14 PR11D/RDQ17 (io), D16 PR17A/HS/RDGS17 (io), E14 PR14C/RDQ17 (io), E15 PR17B/HS/RDQSN17 (io), E16 PR20D/RDQ17 (io), F12 PR17D/RDQ17 (io), F13 PR17C/RDQ17 (io), F14 PR14D/RDQ17 (io), F15 PR20C/RDQ17 (io), F16 PR23A/HS/RDQ29 (io), G12 PR20A/HS/RDQ17 (io), G13 PR20B/HS/RDQ17 (io), G14 PR23C/VREF1_2/RDQ29 (io), G15 PR23B/HS/RDQ29 (io), G16 PR29A/GR_PCLK2_1/HS/RDQS29 (io), H11 VCCIO2 (power), H12 PR26A/HS/RDQ29 (io), H13 PR26B/HS/RDQ29 (io), H14 PR23D/RDQ29 (io), H15 PR29B/HS/RDQSN29 (io), J11 VCCIO2 (power), J12 PR26D/RDQ29 (io), J13 PR26C/RDQ29 (io), J14 PR29C/GR_PCLK2_0/RDQ29 (io), J15 PR32B/PCLKC2_1/HS/RDQ29 (io), J16 PR32A/PCLKT2_1/HS/RDQ29 (io), K14 PR29D/RDQ29 (io), K15 PR32D/PCLKC2_0/RDQ29 (io), K16 PR32C/PCLKT2_0/RDQ29 (io)
part E pins: K11 VCCIO3 (power), K12 PR38B/HS/RDQ41 (io), K13 PR38A/GR_PCLK3_0/HS/RDQ41 (io), L11 VCCIO3 (power), L12 PR38D/RDQ41 (io), L13 PR38C/GR_PCLK3_1/RDQ41 (io), L14 PR41C/RDQ41 (io), L15 PR35B/PCLKC3_1/HS/RDQ41 (io), L16 PR35A/PCLKT3_1/HS/RDQ41 (io), M11 PR68A/HS/RDQ65 (io), M12 PR65C/RDQ65 (io), M13 PR44C/RDQ41 (io), M14 PR41D/RDQ41 (io), M15 PR35D/PCLKC3_0/RDQ41 (io), M16 PR35C/PCLKT3_0/RDQ41 (io), N11 PR68B/HS/RDQ65 (io), N12 PR65D/RDQ65 (io), N13 PR59A/HS/RDQ65 (io), N14 PR44D/RDQ41 (io), N16 PR41A/HS/RDQS41 (io), P11 PR68C/LRC_GPLLOT_IN/RDQ65 (io), P12 PR68D/LRC_GPLLOC_IN/RDQ65 (io), P13 PR62A/HS/RDQ65 (io), P14 PR59B/HS/RDQ65 (io), P15 PR41B/HS/RDQSN41 (io), P16 PR44A/HS/RDQ41 (io), R12 PR65A/HS/RDQS65 (io), R13 PR62C/RDQ65 (io), R14 PR62B/HS/RDQ65 (io), R15 PR59C/RDQ65 (io), R16 PR44B/VREF1_3/HS/RDQ41 (io), T13 PR65B/HS/RDQSN65 (io), T14 PR62D/RDQ65 (io), T15 PR59D/RDQ65 (io)
part F pins: J6 VCCIO6 (power), J7 VCCIO6 (power), K4 PL38A/GR_PCLK6_0/HS/LDQ41 (io), K5 PL38B/HS/LDQ41 (io), L1 PL35A/PCLKT6_1/HS/LDQ41 (io), L2 PL35B/PCLKC6_1/HS/LDQ41 (io), L3 PL41C/LDQ41 (io), L4 PL38C/GR_PCLK6_1/LDQ41 (io), L5 PL38D/LDQ41 (io), M1 PL35C/PCLKT6_0/LDQ41 (io), M2 PL35D/PCLKC6_0/LDQ41 (io), M3 PL41D/LDQ41 (io), M4 PL44C/LDQ41 (io), M5 PL65C/LDQ65 (io), M6 PL68A/HS/LDQ65 (io), N1 PL41A/HS/LDQS41 (io), N3 PL44D/LDQ41 (io), N4 PL59A/HS/LDQ65 (io), N5 PL65D/LDQ65 (io), N6 PL68B/HS/LDQ65 (io), P1 PL44A/HS/LDQ41 (io), P2 PL41B/HS/LDQSN41 (io), P3 PL59B/HS/LDQ65 (io), P4 PL62A/HS/LDQ65 (io), P5 PL68D/LLC_GPLLOC_IN/LDQ65 (io), P6 PL68C/LLC_GPLLOT_IN/LDQ65 (io), R1 PL44B/VREF1_6/HS/LDQ41 (io), R2 PL59C/LDQ65 (io), R3 PL62B/HS/LDQ65 (io), R4 PL62C/LDQ65 (io), R5 PL65A/HS/LDQS65 (io), T2 PL59D/LDQ65 (io), T3 PL62D/LDQ65 (io), T4 PL65B/HS/LDQSN65 (io)
part G pins: B1 PL11A/ULC_GPLLOT_IN/HS/LDQ17 (io), B2 PL11B/ULC_GPLLOC_IN/HS/LDQ17 (io), C1 PL14A/HS/LDQ17 (io), C2 PL14B/HS/LDQ17 (io), C3 PL11C/LDQ17 (io), D1 PL17A/HS/LDGS17 (io), D3 PL11D/LDQ17 (io), E1 PL20D/LDQ17 (io), E2 PL17B/HS/LDQSN17 (io), E3 PL14C/LDQ17 (io), F1 PL23A/HS/LDQ29 (io), F2 PL20C/LDQ17 (io), F3 PL14D/LDQ17 (io), F4 PL17C/LDQ17 (io), F5 PL17D/LDQ17 (io), G1 PL29A/GR_PCLK7_1/HS/LDQS29 (io), G2 PL23B/HS/LDQ29 (io), G3 PL23C/VREF1_7/LDQ29 (io), G4 PL20B/HS/LDQ17 (io), G5 PL20A/HS/LDQ17 (io), H2 PL29B/HS/LDQSN29 (io), H3 PL23D/LDQ29 (io), H4 PL26B/HS/LDQ29 (io), H5 PL26A/HS/LDQ29 (io), H6 VCCIO7 (power), H7 VCCIO7 (power), J1 PL32A/PCLKT7_1/HS/LDQ29 (io), J2 PL32B/PCLKC7_1/HS/LDQ29 (io), J3 PL29C/GR_PCLK7_0/LDQ29 (io), J4 PL26C/LDQ29 (io), J5 PL26D/LDQ29 (io), K1 PL32C/PCLKT7_0/LDQ29 (io), K2 PL32D/PCLKC7_0/LDQ29 (io), K3 PL29D/LDQ29 (io)
part H pins: L6 VCCIO8 (power), M7 PB9B/D2/IO2 (io), M8 PB15B/DOUT/CSON (io), M9 PB18A/WRITEN (io), N7 PB9A/D3/IO3 (io), N8 PB15A/HOLDN/DI/BUSY/CSSPIN/CEN (io), N9 CCLK/MCLK/SCK (io), N10 CFG_0 (io), P7 PB6B/D4/MOSI2/IO4 (io), P8 PB13B/CS1N (io), P9 DONE (io), P10 CFG_1 (io), R6 PB4B/D6/IO6 (io), R7 PB6A/D5/MISO2/IO5 (io), R8 PB13A/SN/CSN (io), R9 PROGRAMN (io), R10 CFG_2 (io), T6 PB4A/D7/IO7 (io), T7 PB11A/D1/MISO/IO1 (io), T8 PB11B/D0/MOSI/IO0 (io), T9 INITN (io)
part I pins: M10 TDO (io), R11 TDI (io), T10 TCK (io), T11 TMS (io)

## ESP32-S2
designator U?
WiFi 802.11b/g/n Transceiver Module 2.4GHz QFN-56; Supplier 1: Digi-Key; Supplier 2: Mouser; Supplier Part Number 1: 1965-ESP32-S2CT-ND; Supplier Part Number 2: 356-ESP32-S2; Supplier 3: LCSC; Supplier Part Number 3: C529594
footprint QFN56 (QFN, 56-Leads, Body 7.00x7.00mm, Pitch 0.40mm, Thermal Pad 4.00x4.00mm, IPC Medium Density)
pins: 1 VDDA (power), 2 LNA_IN (io), 3 VDD3P3 (power), 4 VDD3P3 (power), 5 GPIO0 (io), 6 GPIO1 (io), 7 GPIO2 (io), 8 GPIO3 (io), 9 GPIO4 (io), 10 GPIO5 (io), 11 GPIO6 (io), 12 GPIO7 (io), 13 GPIO8 (io), 14 GPIO9 (io), 15 GPIO10 (io), 16 GPIO11 (io), 17 GPIO12 (io), 18 GPIO13 (io), 19 GPIO14 (io), 20 VDD3P3_RTC (power), 21 XTAL_32K_P, 22 XTAL_32K_N, 23 DAC_1 (out), 24 DAC_2 (out), 25 GPIO19/USB_D- (io), 26 GPIO20/USB_D+ (io), 27 VDD3P3_RTC_IO (power), 28 GPIO21 (io), 29 SPICS1 (in), 30 VDD_SPI (power), 31 SPIHD (io), 32 SPIWP (io), 33 SPICS0 (io), 34 SPICLK (io), 35 SPIQ (io), 36 SPID (io), 37 GPIO33 (io), 38 GPIO34 (io), 39 GPIO35 (io), 40 GPIO36 (io), 41 GPIO37 (io), 42 GPIO38 (io), 43 MTCK (io), 44 MTD0 (io), 45 VDD3P3_CPU (power), 46 MTDI (io), 47 MTMS (io), 48 U0TXD (io), 49 U0RXD (io), 50 GPIO45 (io), 51 VDDA (power), 52 XTAL_N, 53 XTAL_P, 54 VDDA (power), 55 GPIO46 (io), 56 CHIP_PU (in), 57 GND (power)

## FDS9926A
designator U?
MOSFET 2N-CH 20V 6.5A 8SOIC; Manufacturer: Fairchild Semiconductor; Supplier: Digi-Key; Supplier Part Number: FDS9926ACT-ND; Manufacturer Part Number: FDS9926A; Last Modified Date: *; Supplier 1: Digi-Key; Supplier Part Number 1: FDS9926ACT-ND
footprint SOIC127P600X175-8N (SOIC, 8-Leads, Body 4.90x3.90mm, Pitch 1.27mm, IPC Medium Density)
pins: 1 S2, 2 G2, 3 S1, 4 G1, 5 D1, 6 D1, 7 D2, 8 D2

## FT230XS-R
designator U?, comment FT230X
IC USB SERIAL BASIC UART 16SSOP; Supplier 1: Digi-Key; Supplier Part Number 1: 768-1135-1-ND
footprint SOP65P600X175-16N (SOP, 16-Leads, Body 4.90x3.90mm, Pitch 0.65mm, IPC Medium Density)
pins: 1 TXD (out), 2 RTS# (out), 3 VCCIO (power), 4 RXD (in), 5 GND, 6 CTS# (in), 7 CBUS2 (io), 8 USBDP (in), 9 USBDM (in), 10 3V3OUT (power), 11 RESET# (in), 12 VCC (power), 13 GND, 14 CBUS1 (io), 15 CBUS0 (io), 16 CBUS3 (io)

## FT2232HL
designator U?
Dual High Speed USB To Multipurpose UART/FIFO IC, 64-pin LQFP, Tape and Reel; PartNumber: FT2232HL-Reel; Manufacturer: FTDI; DatasheetVersion: ver 2.21, Jun-2012; ComponentLink1URL: http://www.ftdichip.com/; ComponentLink2Description: Datasheet; RevisionNote: DatasheetVersion updated to 2.21 Jun-2012; PackageVersion: Jun-12; ComponentLink1Description: Manufacturer URL; ComponentLink2URL: http://www.ftdichip.com/Support/Documents/DataSheets/ICs/DS_FT2232H.pdf; PackageReference: LQFP-64; PackageDescription: 64-Pin Thin Quad Flat Pack, 10 x 10 x 1.4 mm Body, 0.5 mm Pitch
footprint LQFP-64_M (Thin QFP, 64-Leads, Body 10x10mm, Pitch 0.5mm, IPC Low Density)
footprint LQFP-64_L (Thin QFP, 64-Leads, Body 10x10mm, Pitch 0.5mm, IPC High Density)
footprint LQFP-64_N (Thin QFP, 64-Leads, Body 10x10mm, Pitch 0.5mm, IPC Medium Density)
pins: 1 GND (power), 2 OSCI (in), 3 OSCO (out), 4 VPHY (power), 5 GND (power), 6 REF (in), 7 DM (in), 8 DP (in), 9 VPLL (power), 10 AGND (power), 11 GND (power), 12 VCORE (power), 13 TEST (in), 14 RESET# (in), 15 GND (power), 16 ADBUS0 (io), 17 ADBUS1 (io), 18 ADBUS2 (io), 19 ADBUS3 (io), 20 VCCIO (power), 21 ADBUS4 (io), 22 ADBUS5 (io), 23 ADBUS6 (io), 24 ADBUS7 (io), 25 GND (power), 26 ACBUS0 (io), 27 ACBUS1 (io), 28 ACBUS2 (io), 29 ACBUS3 (io), 30 ACBUS4 (io), 31 VCCIO (power), 32 ACBUS5 (io), 33 ACBUS6 (io), 34 ACBUS7 (io), 35 GND (power), 36 SUSPEND# (out), 37 VCORE (power), 38 BDBUS0 (io), 39 BDBUS1 (io), 40 BDBUS2 (io), 41 BDBUS3 (io), 42 VCCIO (power), 43 BDBUS4 (io), 44 BDBUS5 (io), 45 BDBUS6 (io), 46 BDBUS7 (io), 47 GND (power), 48 BCBUS0 (io), 49 VREGOUT (power), 50 VREGIN (power), 51 GND (power), 52 BCBUS1 (io), 53 BCBUS2 (io), 54 BCBUS3 (io), 55 BCBUS4 (io), 56 VCCIO (power), 57 BCBUS5 (io), 58 BCBUS6 (io), 59 BCBUS7 (io), 60 PWREN# (out), 61 EEDATA (io), 62 EECLK (out), 63 EECS (io), 64 VCORE (power)

## HDC2022DEPR
designator U?
Humidity, Temperature Sensor I²C Output; Supplier 1: Digi-Key; Supplier 2: Mouser; Supplier Part Number 1: 296-HDC2022DEPRCT-ND; Supplier Part Number 2: 595-HDC2022DEPR
footprint DEP0006A-MFG
pins: 1 SDA (io), 2 GND (power), 3 ADDR (in), 4 DRDY_INT (out), 5 VDD (power), 6 SCL (in), 7 EP (power)

## ICE40UL1K-SWG16ITR1K
designator U?
IC FPGA 10 I/O 16WLCSP; MF: Lattice Semiconductor; MP: ICE40UL1K-SWG16ITR1K; Package: XFBGA-16 Lattice Semiconductor; Supplier 1: Digi-Key; Supplier 2: Mouser; Supplier Part Number 1: 220-2228-1-ND; Supplier Part Number 2: 842-40UL1KSWG16ITR1K
footprint BGA16N35P4X4_140X140X49N
footprint BGA16N35P4X4_140X140X49N
pins: A1 IRLED_0 (io), A2 BARCODE_0 (io), A3 GND (power), A4 RGB1_0 (io), B1 GND_LED (power), B2 CRESET_B_2 (in), B3 VPP_2V5_VCCIO0 (power), B4 RGB0_0 (io), C1 IOB_16A_SCK_1 (io), C2 IOB_14A_SO_1 (io), C3 IOB_8A_G4_CDONE_2 (io), C4 RGB2_0 (io), D1 IOB_17B_SS_1 (io), D2 IOB_15B_SI_1 (io), D3 SPI_VCCIO1_VCCIO2 (power), D4 VCC (power)

## INA214BQDCKRQ1
designator U?
IC OP AMP CUR SEN 14KHZ SC70-6; Supplier 1: Digi-Key; Supplier Part Number 1: 296-44267-1-ND
footprint DCK (R-PDSO-G6) (TSOP, 6-Leads, Body 2.00x1.25mm, Pitch 0.65mm, IPC Medium Density)
pins: 1 REF, 2 GND, 3 V+, 4 IN+ (in), 5 IN- (in), 6 OUT (out)

## INA219AIDCNR
designator U?, comment INA219
IC CURRENT MONITOR 1% SOT23-8; Supplier 1: Digi-Key; Supplier Part Number 1: 296-23978-1-ND
footprint D (R-PDSO-G8) (SOIC, 8-Leads, Body 4.90x3.90mm, Pitch 1.27mm, IPC Low Density)
pins: 1 IN+, 2 IN-, 3 GND, 4 Vs, 5 SCL, 6 SDA, 7 A0, 8 A1

## INA226AQDGSRQ1
designator U?, comment INA226
IC MONITOR PWR/CURR BIDIR 10MSOP; Supplier 1: Digi-Key; Supplier Part Number 1: 296-42503-1-ND
footprint DGS (S-PDSO-G10) (TSSOP, 10-Leads, Body 3.00x3.00mm, Pitch 0.50mm, IPC Medium Density)
pins: 1 A1, 2 A0, 3 Alert, 4 SDA, 5 SCL, 6 VS, 7 GND, 8 VBUS, 9 IN-, 10 IN+

## INA301A3QDGKT-Q1
designator *
IC CURRENT MONITOR W/ OVC ALERT; Supplier 1: Mouser; Supplier Part Number 1: INA301A3QDGKT-Q1
footprint DGK (S-PDSO-G8) (TSOP, 8-Leads, Body 3.00x3.00mm, Pitch 0.65mm, IPC Medium Density)
pins: 1 VCC (power), 2 OUT (out), 3 LIMIT (in), 4 GND (power), 5 RESET (in), 6 ~{ALERT} (out), 7 IN- (in), 8 IN+ (in)

## INA4180
designator U?
INA4180 4 channel current sense IC; ComponentLink1Description: Datasheet; ComponentLink1URL: http://www.ti.com/lit/ds/symlink/ina4180.pdf; Supplier 1: Digi-Key; Supplier Part Number 1: 296-49094-1-ND
footprint TSSOP-14 (R-PDSO-G14) (TSSOP, 14-Leads, Body 5.00x4.40mm, Pitch 0.65mm, IPC Medium Density)
pins: 1 OUT1, 2 IN-1, 3 IN+1, 4 VS, 5 IN+2, 6 IN-2, 7 OUT2, 8 OUT3, 9 IN-3, 10 IN+3, 11 GND, 12 IN+4, 13 IN-4, 14 OUT4

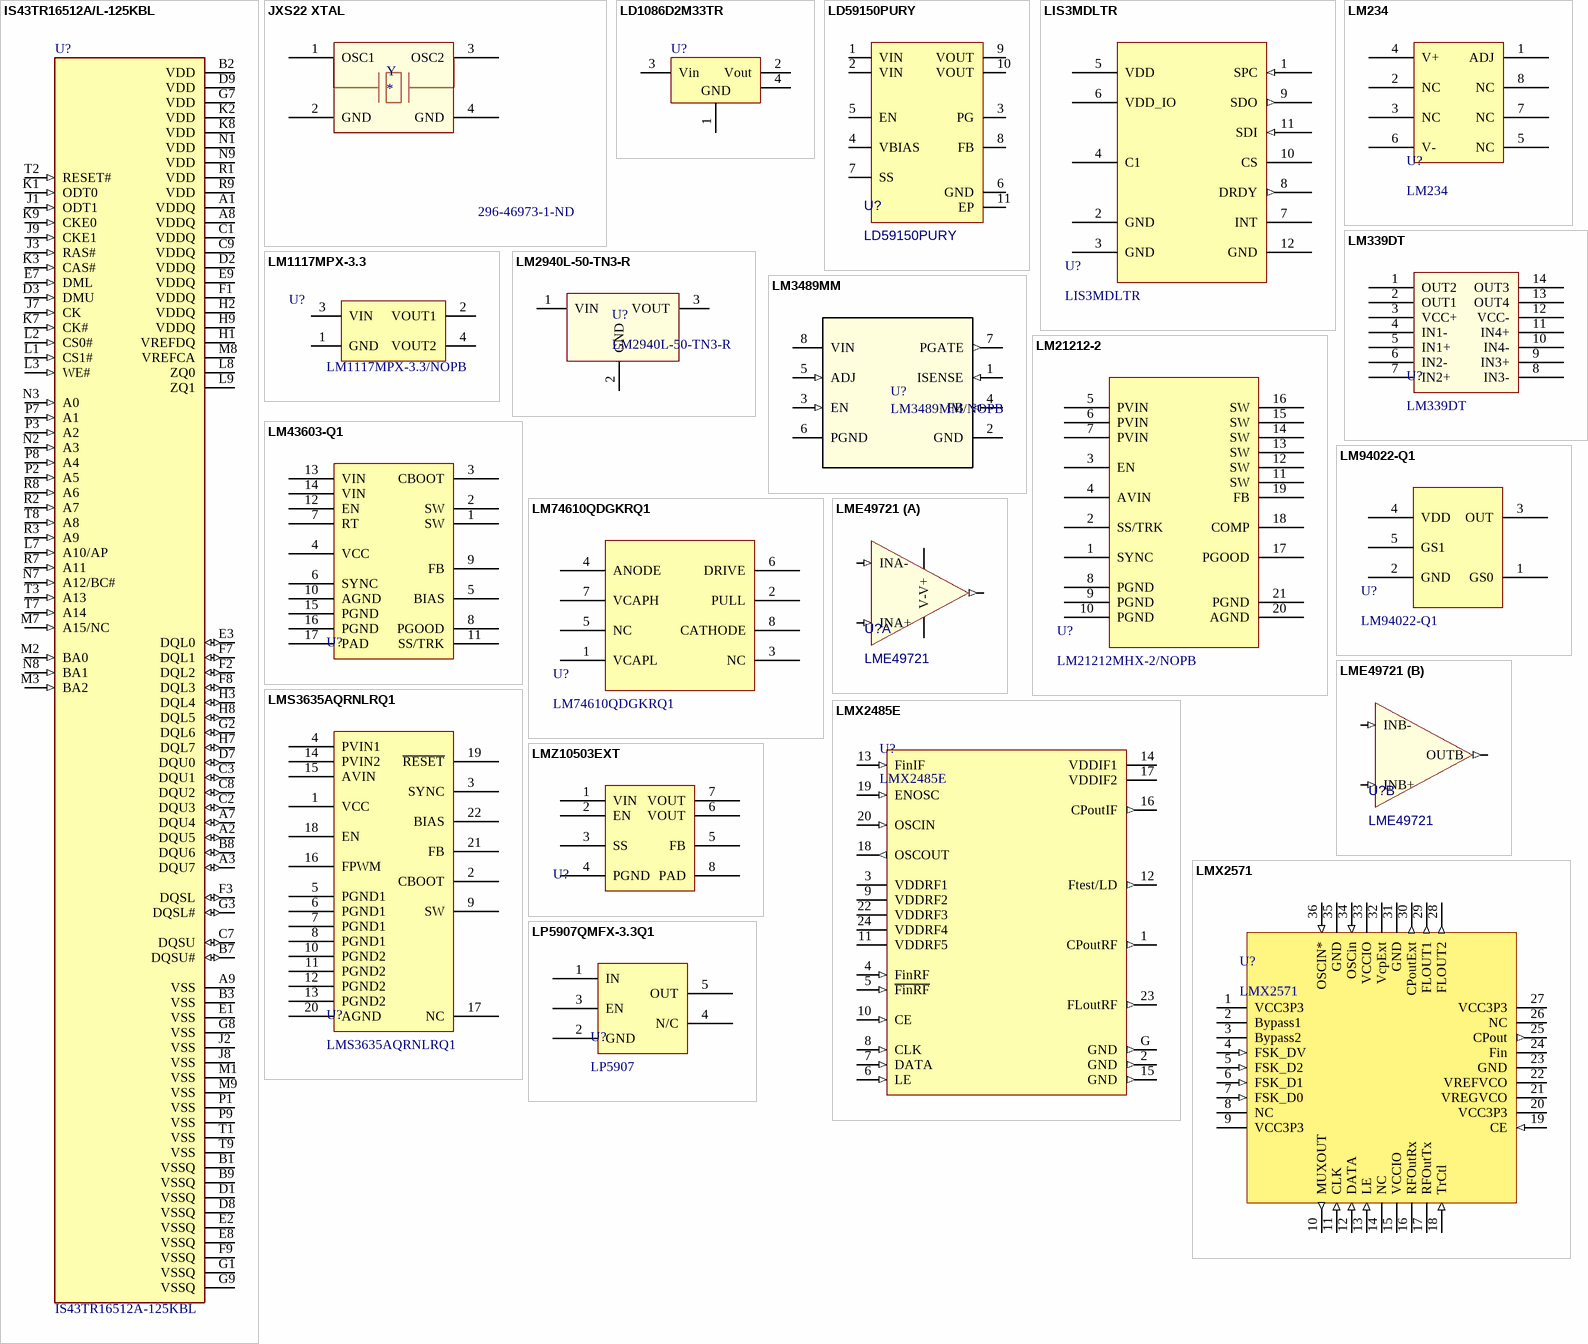
[diagram p5: symbols IS43TR16512A/L-125KBL to LP5907QMFX-3.3Q1]

## IS43TR16512A/L-125KBL
designator U?, comment IS43TR16512A-125KBL
SDRAM - DDR3L Memory IC 8Gb (512M x 16) Parallel 800MHz 20ns 96-LFBGA (10x14); MF: ISSI, Integrated; MP: IS43TR16512AL-125KBL; Package: LFBGA-96 ISSI; Supplier 1: Digi-Key; Supplier 2: Mouser; Supplier Part Number 1: 706-1459-ND; Supplier Part Number 2: 870-43TR16512A125KBL
footprint BGA96C80P9X16_1000X1400X140N (DDR3-96BGA)
pins: A1 VDDQ (power), A2 DQU5 (io), A3 DQU7 (io), A7 DQU4 (io), A8 VDDQ (power), A9 VSS (power), B1 VSSQ (power), B2 VDD (power), B3 VSS (power), B7 DQSU# (io), B8 DQU6 (io), B9 VSSQ (power), C1 VDDQ (power), C2 DQU3 (io), C3 DQU1 (io), C7 DQSU (io), C8 DQU2 (io), C9 VDDQ (power), D1 VSSQ (power), D2 VDDQ (power), D3 DMU (in), D7 DQU0 (io), D8 VSSQ (power), D9 VDD (power), E1 VSS (power), E2 VSSQ (power), E3 DQL0 (io), E7 DML (in), E8 VSSQ (power), E9 VDDQ (power), F1 VDDQ (power), F2 DQL2 (io), F3 DQSL (io), F7 DQL1 (io), F8 DQL3 (io), F9 VSSQ (power), G1 VSSQ (power), G2 DQL6 (io), G3 DQSL# (io), G7 VDD (power), G8 VSS (power), G9 VSSQ (power), H1 VREFDQ (power), H2 VDDQ (power), H3 DQL4 (io), H7 DQL7 (io), H8 DQL5 (io), H9 VDDQ (power), J1 ODT1 (in), J2 VSS (power), J3 RAS# (in), J7 CK (in), J8 VSS (power), J9 CKE1 (in), K1 ODT0 (in), K2 VDD (power), K3 CAS# (in), K7 CK# (in), K8 VDD (power), K9 CKE0 (in), L1 CS1# (in), L2 CS0# (in), L3 WE# (in), L7 A10/AP (in), L8 ZQ0 (power), L9 ZQ1 (power), M1 VSS (power), M2 BA0 (in), M3 BA2 (in), M7 A15/NC (in), M8 VREFCA (power), M9 VSS (power), N1 VDD (power), N2 A3 (in), N3 A0 (in), N7 A12/BC# (in), N8 BA1 (in), N9 VDD (power), P1 VSS (power), P2 A5 (in), P3 A2 (in), P7 A1 (in), P8 A4 (in), P9 VSS (power), R1 VDD (power), R2 A7 (in), R3 A9 (in), R7 A11 (in), R8 A6 (in), R9 VDD (power), T1 VSS (power), T2 RESET# (in), T3 A13 (in), T7 A14 (in), T8 A8 (in), T9 VSS (power)

## JXS22 XTAL
designator Y
Q 16,0-JXS22-8-10/15-T1-WA-LF - SMD Crystal
footprint SMD-XTAL (SMD Crystal footprint - Q 16,0-JXS22-8-10/15-T1-WA-LF datasheet)
pins: 1 OSC1, 2 GND, 3 OSC2, 4 GND

## LD1086D2M33TR
designator U?  (value not drawn)
Key: 690; MENG_PN: ANG00046; MANF: ST Microelectronics; VENDOR: Digikey; VENDOR_PN: 497-1223-1-ND; P&V Description: IC, Voltage Regulator, 3.3V, 1.5A max Iout, 30V Max Vin, DPAK-3, SMD; Class: IC; Other: 3.3V, 1.5A max Iout, 30V Max Vin; Approved: True; MANF_PN: LD1086D2M33TR; Type: Voltage Regulator; Package: DPAK-3; SMD: True; Date Modified: 4/8/2011 3:28:12 PM; Modified By: cschneiker; Parent Key: 690; Verified: True; Supplier 1: Digi-Key; Supplier Part Number 1: 497-1223-1-ND
footprint D2PAK TO263-4N
pins: 1 GND, 2 Vout, 3 Vin, 4 GND

## LD59150PURY
designator U?
Linear Voltage Regulator IC Positive Adjustable 1 Output 1.5A 10-DFN (3x3); Supplier 1: Digi-Key; Supplier 2: Mouser; Supplier 3: LCSC; Supplier Part Number 1: 497-18285-1-ND; Supplier Part Number 2: 511-LD59150PURY; Supplier Part Number 3: C2969831
footprint DFN10_3X3X0P5_STM-L
pins: 1 VIN (power), 2 VIN (power), 3 PG, 4 VBIAS, 5 EN, 6 GND (power), 7 SS, 8 FB, 9 VOUT (power), 10 VOUT (power), 11 EP (power)

## LIS3MDLTR
designator U?
SENSOR MAGMTR I2C/SPI 12LGA; Supplier 1: Digi-Key; Supplier Part Number 1: 497-13892-1-ND
footprint VFLGA-12 (SENSOR MAGMTR I2C/SPI 12LGA)
pins: 1 SPC (in) "SCL", 2 GND, 3 GND, 4 C1, 5 VDD, 6 VDD_IO, 7 INT, 8 DRDY (out), 9 SDO (out) "SA1", 10 CS, 11 SDI (in) "SDI/SDO", 12 GND

## LM234
designator U?
IC CURRENT SOURCE 3% 8SOIC; Supplier 1: Digi-Key; Supplier Part Number 1: 497-1549-1-ND
footprint D (R-PDSO-G8) (SOIC, 8-Leads, Body 4.90x3.90mm, Pitch 1.27mm, IPC Low Density)
pins: 1 ADJ, 2 NC, 3 NC, 4 V+, 5 NC, 6 V-, 7 NC, 8 NC

## LM339DT
designator U?
Quad Comparator General Purpose CMOS, DTL, ECL, MOS, Open-Collector, TTL 14-SO, 2-32V
footprint SO-14 (LM339DT) (SOIC-14_150mil)
pins: 1 OUT2, 2 OUT1, 3 VCC+, 4 IN1-, 5 IN1+, 6 IN2-, 7 IN2+, 8 IN3-, 9 IN3+, 10 IN4-, 11 IN4+, 12 VCC-, 13 OUT4, 14 OUT3

## LM1117MPX-3.3
designator U?, comment Manufacturer Part Number: LM1117MPX-3.3/NOPB  (hidden comment: IC REG LIN 3.3V 800MA SOT223-4)
Linear Voltage Regulator IC 1 Output 800mA SOT-223-4; Supplier 1: Digi-Key; Supplier Part Number 1: LM1117MPX-3.3/NOPBCT-ND
footprint SOT230P700X180-4M (SOT223, 4-Leads, Body 6.50x7.00mm (avg), Pitch 2.30mm, IPC Low Density)
pins: 1 GND, 2 VOUT1 (power), 3 VIN (power), 4 VOUT2 (power)

## LM2940L-50-TN3-R
designator U?
Fixed 26V 5V 1A TO-252-2(DPAK) Low Dropout Regulators(LDO); Supplier 3: LCSC; Supplier Part Number 3: C85225
footprint Model Name (Footprint not found)
footprint DPAK2 (D-PAK, 3-Pads, Body 6.15x6.65mm (max), IPC Medium Density)
pins: 1 VIN, 2 GND, 3 VOUT

## LM3489MM
designator U?, comment LM3489MM/NOPB
Buck Regulator Positive Output Step-Down DC-DC Controller IC 8-VSSOP; Supplier 1: Digi-Key; Supplier 2: Mouser; Supplier Part Number 1: 296-LM3489MM/NOPBCT-ND; Supplier Part Number 2: 926-LM3489MM/NOPB; Supplier 3: LCSC; Supplier Part Number 3: C129961
footprint DGK (S-PDSO-G8) - LM3489 (LM3489 TSOP, 8-Leads, Body 3.00x3.00mm, Pitch 0.65mm, IPC Medium Density)
pins: 1 ISENSE (in), 2 GND (power), 3 EN (in), 4 FB (in), 5 ADJ (in), 6 PGND (power), 7 PGATE (out), 8 VIN (power)

## LM21212-2
designator U?, comment LM21212MHX-2/NOPB
IC REG BUCK ADJ 12A SYNC 20TSSOP; Supplier 1: Digi-Key; Supplier Part Number 1: 296-37121-1-ND
footprint PWP0020AA (TSOP, 20-Leads, Body 6.50x4.40mm, Pitch 0.65mm, Thermal Pad 4.60x3.35mm, IPC Medium Density)
pins: 1 SYNC, 2 SS/TRK, 3 EN, 4 AVIN, 5 PVIN, 6 PVIN, 7 PVIN, 8 PGND, 9 PGND, 10 PGND, 11 SW, 12 SW, 13 SW, 14 SW, 15 SW, 16 SW, 17 PGOOD, 18 COMP, 19 FB, 20 AGND, 21 PGND

## LM43603-Q1
designator U?, comment LM43603QPWPRQ1  (value not drawn)
IC REG BUCK ADJ 3A SYNC 16HTSSOP; Supplier 1: Digi-Key; Supplier Part Number 1: 296-46613-1-ND
footprint DSU0016A (SON, 16-Leads, Body 5.00x4.00mm, Pitch 0.50mm, Thermal Pad 4.35x2.45mm, IPC Medium Density)
pins: 1 SW, 2 SW, 3 CBOOT, 4 VCC, 5 BIAS, 6 SYNC, 7 RT, 8 PGOOD, 9 FB, 10 AGND, 11 SS/TRK, 12 EN, 13 VIN, 14 VIN, 15 PGND, 16 PGND, 17 PAD

## LM74610QDGKRQ1
designator U?
IC SMART DIODE CTLR 8VSSOP; Supplier 1: Digi-Key; Supplier Part Number 1: 296-43067-1-ND
footprint DGK (S-PDSO-G8) (TSOP, 8-Leads, Body 3.00x3.00mm, Pitch 0.65mm, IPC Medium Density)
pins: 1 VCAPL, 2 PULL, 3 NC, 4 ANODE, 5 NC, 6 DRIVE, 7 VCAPH, 8 CATHODE

## LM94022-Q1
designator U?
SENSOR TEMP ANLG VOLT SC-70-5; Supplier 1: Digi-Key; Supplier Part Number 1: 296-44675-1-ND
footprint DCK (R-PDSO-G5) (SOT23, 5-Leads, Body 2.00x2.10mm, Pitch 0.65mm, IPC Medium Density)
pins: 1 GS0, 2 GND, 3 OUT, 4 VDD, 5 GS1

## LME49721
designator U?
Audio Amplifier 2 Circuit Rail-to-Rail 8-SOIC; Supplier 1: Digi-Key; Supplier 2: Mouser; Supplier Part Number 3: C129347; Supplier Part Number 2: 926-LME49721MAX/NOPB; Supplier Part Number 1: 296-41312-1-ND; Supplier 3: LCSC
footprint SOIC-8N - LME49721 (SOIC, 8-Leads, Body 4.90x3.90mm, Pitch 1.27mm, IPC Medium Density)
part A pins: 1 OUTA (out), 2 INA- (in), 3 INA+ (in), 4 V- (power), 8 V+ (power)
part B pins: 5 INB+ (in), 6 INB- (in), 7 OUTB (out)

## LMS3635AQRNLRQ1
designator U?
Supplier 1: Digi-Key; Supplier Part Number 1: LMS3635AQRNLRQ1-ND
footprint VQFN-HR (LMS3635AQRNLRQ1)
pins: 1 VCC, 2 CBOOT, 3 SYNC, 4 PVIN1, 5 PGND1, 6 PGND1, 7 PGND1, 8 PGND1, 9 SW, 10 PGND2, 11 PGND2, 12 PGND2, 13 PGND2, 14 PVIN2, 15 AVIN, 16 FPWM, 17 NC, 18 EN, 19 ~{RESET}, 20 AGND, 21 FB, 22 BIAS

## LMX2485E
designator U?
PLL, Delta-Sigma, Dual, 50 - 3000 MHz, Low-Power; Supplier 1: Digi-Key; Supplier Part Number 1: LMX2485ESQ/NOPBDKR-ND
footprint QFN24-0.5MM-TI-DWG-RTW0024A (QFN, 24-Leads, Body 4.00x4.00mm, Pitch 0.50mm, Thermal Pad 2.60x2.60mm, IPC High Density)
pins: 1 CPoutRF (out), 2 GND (out), 3 VDDRF1 (power), 4 FinRF (in), 5 ~{FinRF} (in), 6 LE (in), 7 DATA (in), 8 CLK (in), 9 VDDRF2 (power), 10 CE (in), 11 VDDRF5 (power), 12 Ftest/LD (out), 13 FinIF (in), 14 VDDIF1 (power), 15 GND (out), 16 CPoutIF (out), 17 VDDIF2 (power), 18 OSCOUT (out), 19 ENOSC (in), 20 OSCIN (in), 22 VDDRF3 (power), 23 FLoutRF (out), 24 VDDRF4 (power), G GND (out)

## LMX2571
designator U?
PLL, 10 MHz - 1344 MHz, Internal VCO, Low-Power; Supplier 1: Digi-Key; Supplier Part Number 1: 296-41119-1-ND
footprint QFN36-0.5MM-TI-DWG-NJK0036A (QFN, 36-Leads, Body 6.00x6.00mm, Pitch 0.50mm, Thermal Pad 4.60x4.60mm, IPC Medium Density)
pins: 1 VCC3P3 (power), 2 Bypass1 (power), 3 Bypass2 (power), 4 FSK_DV (in), 5 FSK_D2 (in), 6 FSK_D1 (in), 7 FSK_D0 (in), 8 NC, 9 VCC3P3 (power), 10 MUXOUT (out), 11 CLK (in), 12 DATA (in), 13 LE (in), 14 NC, 15 VCCIO (power), 16 RFOutRx, 17 RFOutTx, 18 TrCtl (in), 19 CE (in), 20 VCC3P3 (power), 21 VREGVCO (power), 22 VREFVCO (power), 23 GND (power), 24 Fin (power), 25 CPout (out), 26 NC, 27 VCC3P3 (power), 28 FLOUT2 (out), 29 FLOUT1 (out), 30 CPoutExt (out), 31 GND (power), 32 VcpExt (power), 33 VCCIO (power), 34 OSCin (in), 35 GND (power), 36 OSCIN* (in)

## LMZ10503EXT
designator U?  (value not drawn)
IC BUCK SYNC ADJ 3A TO-PMOD-7; Supplier 1: Digi-Key; Supplier Part Number 1: LMZ10503EXTTZ/NOPBCT-ND
footprint LMZ10503EXT (IC BUCK SYNC ADJ 3A TO-PMOD-7)
pins: 1 VIN, 2 EN, 3 SS, 4 PGND, 5 FB, 6 VOUT, 7 VOUT, 8 PAD

## LP5907QMFX-3.3Q1
designator U?, comment LP5907
IC REG LINEAR 3.3V 250MA SOT23-5; Supplier 1: Digi-Key; Supplier Part Number 1: 296-40365-1-ND
footprint SOT95P280X145-5N (SOT23, 5-Leads, Body 2.90x2.80mm, Pitch 0.95mm, IPC Medium Density)
pins: 1 IN, 2 GND, 3 EN, 4 N/C, 5 OUT

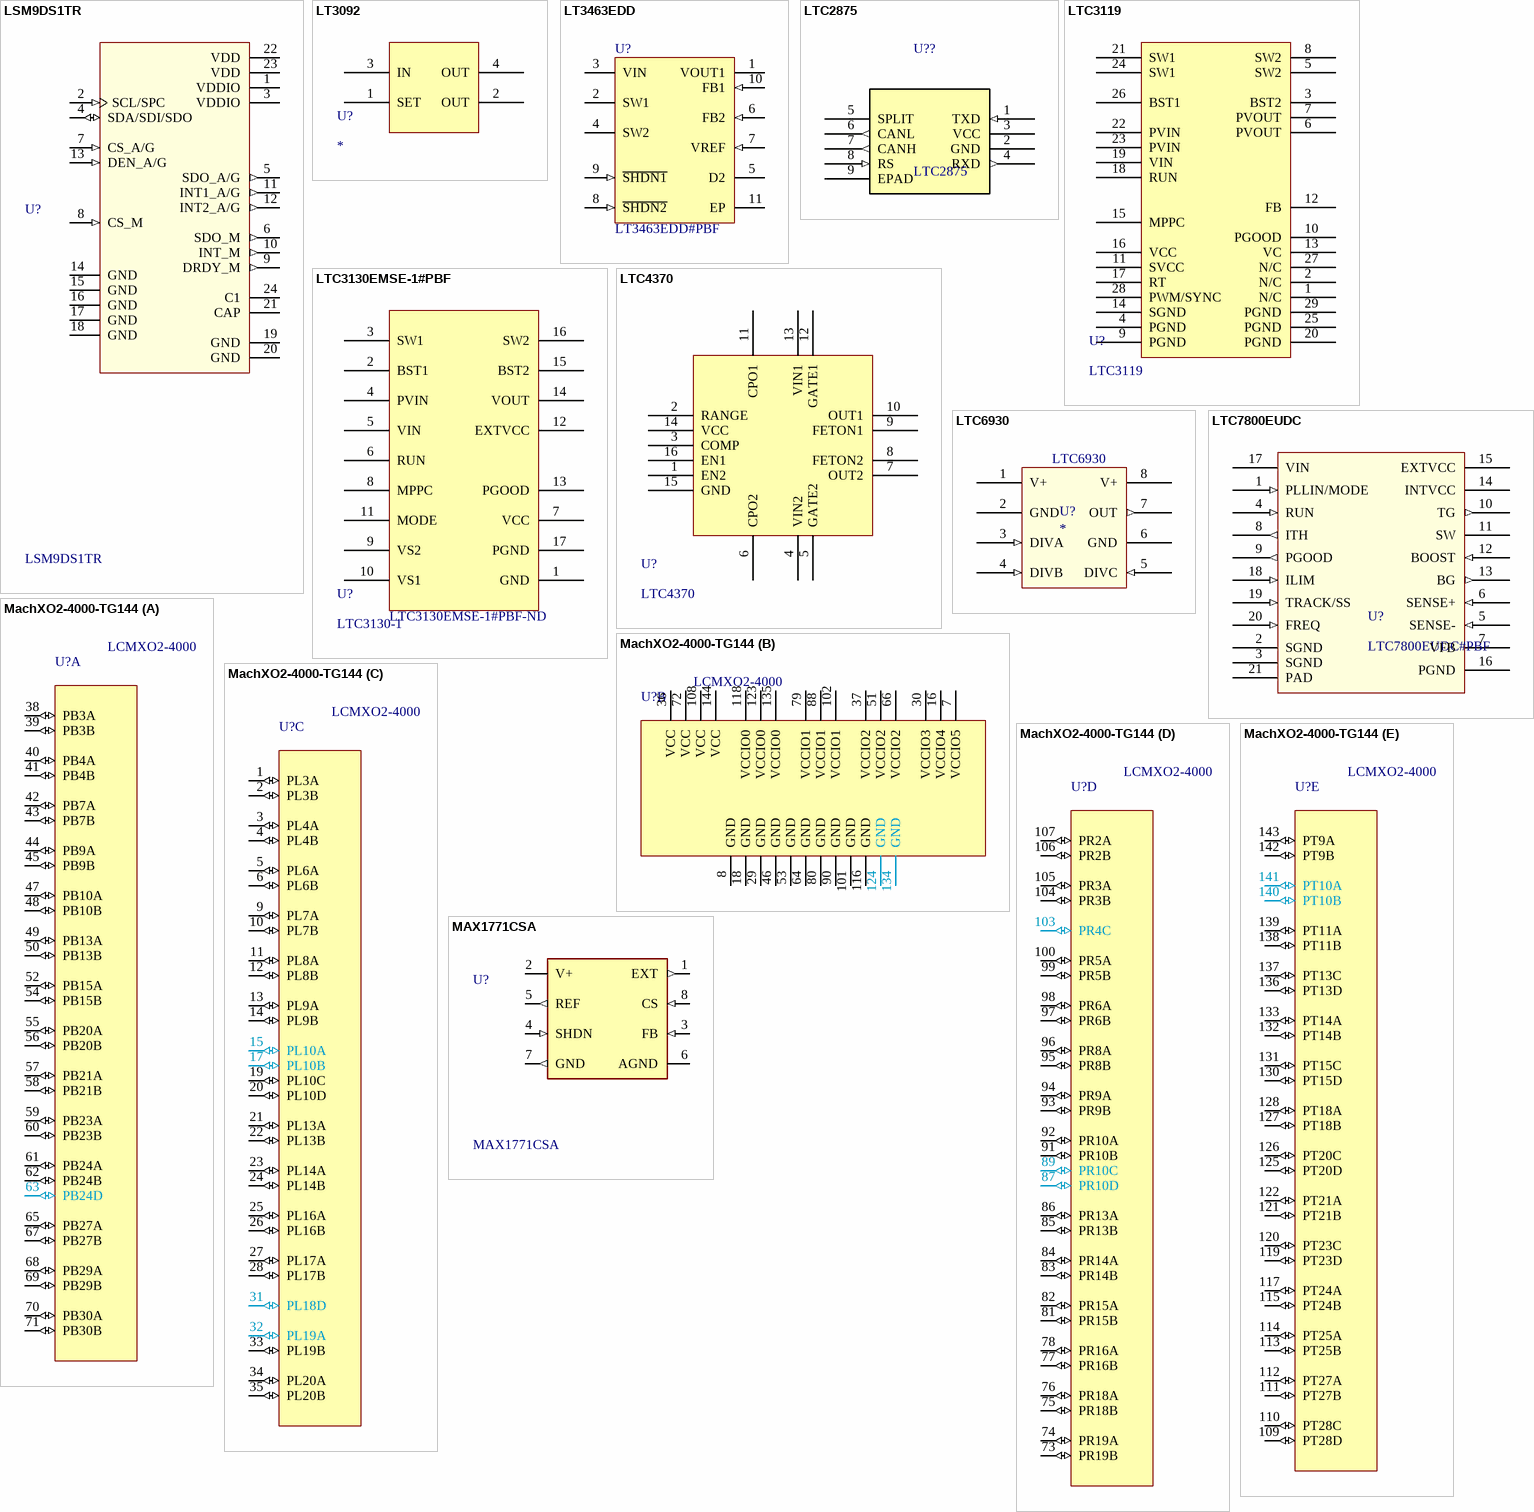
[diagram p6: symbols LSM9DS1TR to MAX1771CSA]

## LSM9DS1TR
designator U?
Accelerometer, Gyroscope, Magnetometer, Temperature, 9 Axis Sensor IÂ²C, SPI Output; MF: STMicroelectronics; Digi-Key_Purchase_URL: https://www.digikey.com/product-detail/en/stmicroelectronics/LSM9DS1TR/497-14946-1-ND/4988079?utm_source=snapeda&utm_medium=aggregator&utm_campaign=symbol; SnapEDA_Link: https://www.snapeda.com/parts/LSM9DS1TR/STMicroelectronics/view-part/106273/?ref=snap; Package: TFLGA-24 STMicroelectronics; MP: LSM9DS1TR; Digi-Key_Part_Number: 497-14946-1-ND; Value: *; Supplier 1: Digi-Key; Supplier Part Number 1: 497-14946-1-ND
footprint PQFN43P300X350X102-24N (LSM9DS1TR  IMU ACCEL/GYRO/MAG I2C/SPI 24LGA)
pins: 1 VDDIO (power), 2 SCL/SPC (in), 3 VDDIO (power), 4 SDA/SDI/SDO (io), 5 SDO_A/G (out), 6 SDO_M (out), 7 CS_A/G (in), 8 CS_M (in), 9 DRDY_M (out), 10 INT_M (out), 11 INT1_A/G (out), 12 INT2_A/G (out), 13 DEN_A/G (in), 14 GND (power), 15 GND (power), 16 GND (power), 17 GND (power), 18 GND (power), 19 GND (power), 20 GND (power), 21 CAP, 22 VDD (power), 23 VDD (power), 24 C1

## LT3092
designator U?
IC PROG CUR SOURCE SOT223; Supplier 1: Digi-Key; Supplier Part Number 1: LT3092IST#PBF-ND
footprint SOT230P700X180-4M (SOT223, 4-Leads, Body 6.50x7.00mm (avg), Pitch 2.30mm, IPC Low Density)
pins: 1 SET, 2 OUT, 3 IN, 4 OUT